# Altium schematic symbol library MCU_ST_STM32L4.SchLib: 320 symbols (part 7 of 9)
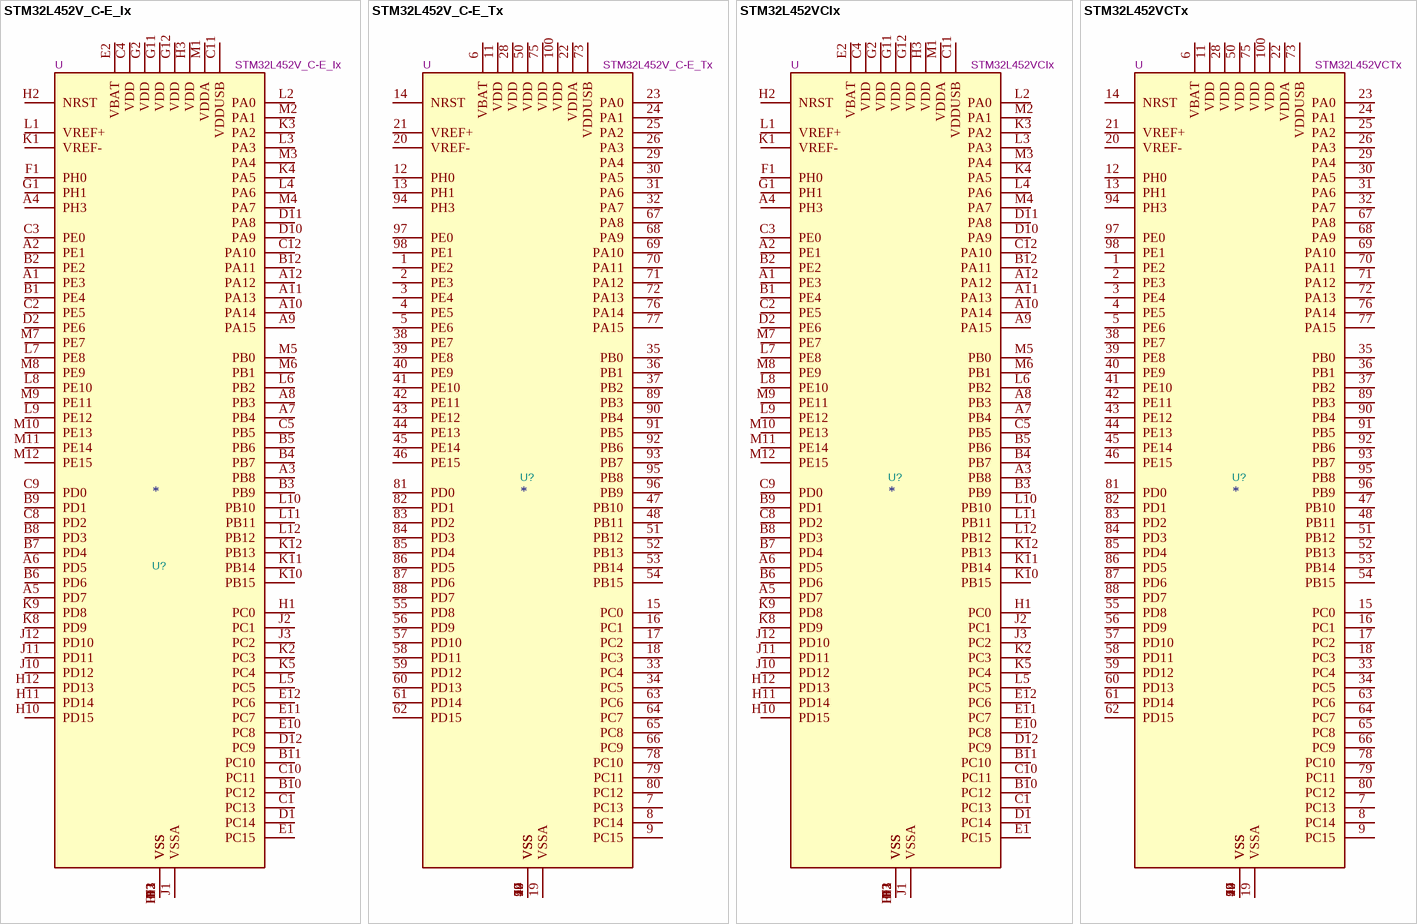
[diagram p69: symbols STM32L452V_C-E_Ix to STM32L452VCTx]

## STM32L452VCTx
designator U?  value STM32L452VCTx  Reference: U
STMicroelectronics Arm Cortex-M4 MCU, 256KB flash, 160KB RAM, 80 MHz, 1.71-3.6V, 83 GPIO, LQFP100; ki_keywords: Arm Cortex-M4 STM32L4 STM32L4x2; ki_fp_filters: LQFP*14x14mm*P0.5mm*; Footprint: Package_QFP:LQFP-100_14x14mm_P0.5mm; Datasheet: https://www.st.com/resource/en/datasheet/stm32l452vc.pdf; Description_: STMicroelectronics Arm Cortex-M4 MCU, 256KB flash, 160KB RAM, 80 MHz, 1.71-3.6V, 83 GPIO, LQFP100
pins: 1 PE2, 2 PE3, 3 PE4, 4 PE5, 5 PE6, 6 VBAT, 7 PC13, 8 PC14, 9 PC15, 10 VSS, 11 VDD, 12 PH0, 13 PH1, 14 NRST, 15 PC0, 16 PC1, 17 PC2, 18 PC3, 19 VSSA, 20 VREF-, 21 VREF+, 22 VDDA, 23 PA0, 24 PA1, 25 PA2, 26 PA3, 27 VSS, 28 VDD, 29 PA4, 30 PA5, 31 PA6, 32 PA7, 33 PC4, 34 PC5, 35 PB0, 36 PB1, 37 PB2, 38 PE7, 39 PE8, 40 PE9, 41 PE10, 42 PE11, 43 PE12, 44 PE13, 45 PE14, 46 PE15, 47 PB10, 48 PB11, 49 VSS, 50 VDD, 51 PB12, 52 PB13, 53 PB14, 54 PB15, 55 PD8, 56 PD9, 57 PD10, 58 PD11, 59 PD12, 60 PD13, 61 PD14, 62 PD15, 63 PC6, 64 PC7, 65 PC8, 66 PC9, 67 PA8, 68 PA9, 69 PA10, 70 PA11, 71 PA12, 72 PA13, 73 VDDUSB, 74 VSS, 75 VDD, 76 PA14, 77 PA15, 78 PC10, 79 PC11, 80 PC12, 81 PD0, 82 PD1, 83 PD2, 84 PD3, 85 PD4, 86 PD5, 87 PD6, 88 PD7, 89 PB3, 90 PB4, 91 PB5, 92 PB6, 93 PB7, 94 PH3, 95 PB8, 96 PB9, 97 PE0, 98 PE1, 99 VSS, 100 VDD

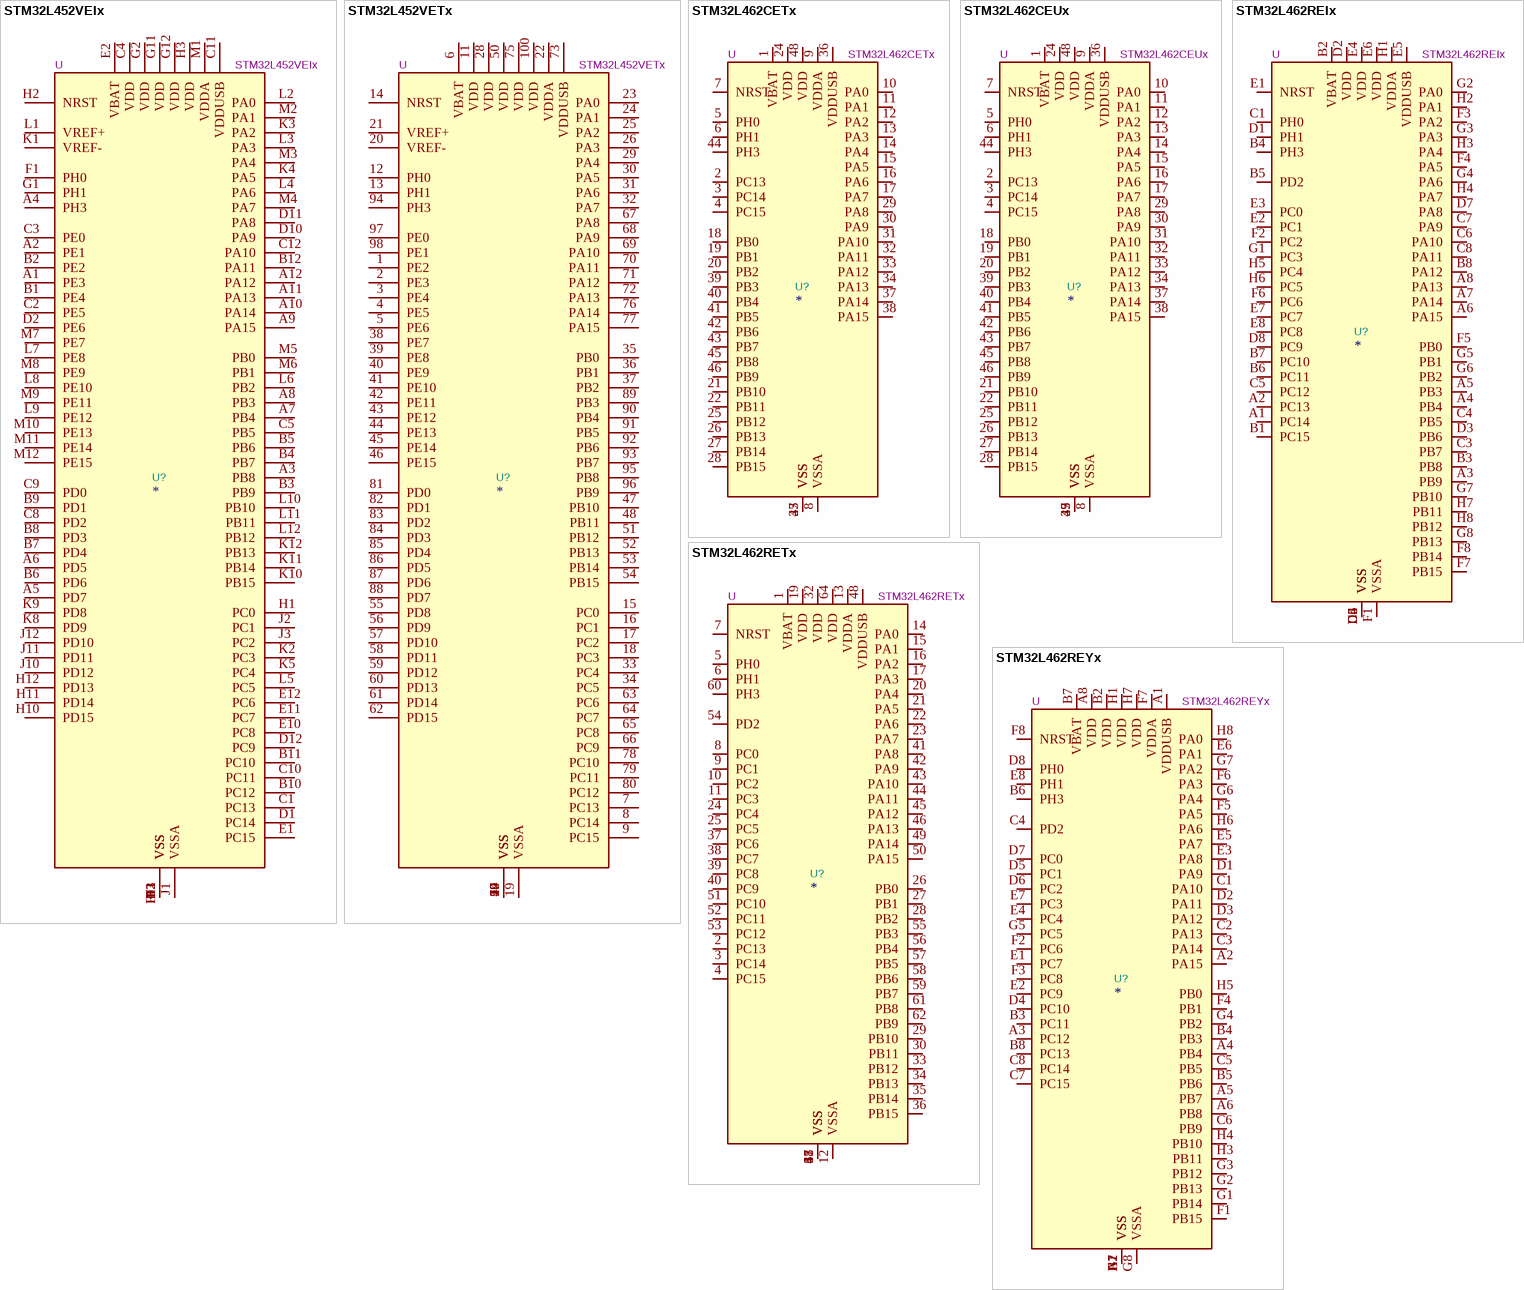
[diagram p45: symbols STM32L452VEIx to STM32L462REYx]

## STM32L452VEIx
designator U?  value STM32L452VEIx  Reference: U
STMicroelectronics Arm Cortex-M4 MCU, 512KB flash, 160KB RAM, 80 MHz, 1.71-3.6V, 83 GPIO, UFBGA100; ki_keywords: Arm Cortex-M4 STM32L4 STM32L4x2; ki_fp_filters: UFBGA*7x7mm*Layout12x12*P0.5mm*; Footprint: Package_BGA:UFBGA-100_7x7mm_Layout12x12_P0.5mm; Datasheet: https://www.st.com/resource/en/datasheet/stm32l452ve.pdf; Description_: STMicroelectronics Arm Cortex-M4 MCU, 512KB flash, 160KB RAM, 80 MHz, 1.71-3.6V, 83 GPIO, UFBGA100
pins: A1 PE3, A2 PE1, A3 PB8, A4 PH3, A5 PD7, A6 PD5, A7 PB4, A8 PB3, A9 PA15, A10 PA14, A11 PA13, A12 PA12, B1 PE4, B2 PE2, B3 PB9, B4 PB7, B5 PB6, B6 PD6, B7 PD4, B8 PD3, B9 PD1, B10 PC12, B11 PC10, B12 PA11, C1 PC13, C2 PE5, C3 PE0, C4 VDD, C5 PB5, C8 PD2, C9 PD0, C10 PC11, C11 VDDUSB, C12 PA10, D1 PC14, D2 PE6, D3 VSS, D10 PA9, D11 PA8, D12 PC9, E1 PC15, E2 VBAT, E3 VSS, E10 PC8, E11 PC7, E12 PC6, F1 PH0, F2 VSS, F11 VSS, F12 VSS, G1 PH1, G2 VDD, G11 VDD, G12 VDD, H1 PC0, H2 NRST, H3 VDD, H10 PD15, H11 PD14, H12 PD13, J1 VSSA, J2 PC1, J3 PC2, J10 PD12, J11 PD11, J12 PD10, K1 VREF-, K2 PC3, K3 PA2, K4 PA5, K5 PC4, K8 PD9, K9 PD8, K10 PB15, K11 PB14, K12 PB13, L1 VREF+, L2 PA0, L3 PA3, L4 PA6, L5 PC5, L6 PB2, L7 PE8, L8 PE10, L9 PE12, L10 PB10, L11 PB11, L12 PB12, M1 VDDA, M2 PA1, M3 PA4, M4 PA7, M5 PB0, M6 PB1, M7 PE7, M8 PE9, M9 PE11, M10 PE13, M11 PE14, M12 PE15

## STM32L452VETx
designator U?  value STM32L452VETx  Reference: U
STMicroelectronics Arm Cortex-M4 MCU, 512KB flash, 160KB RAM, 80 MHz, 1.71-3.6V, 83 GPIO, LQFP100; ki_keywords: Arm Cortex-M4 STM32L4 STM32L4x2; ki_fp_filters: LQFP*14x14mm*P0.5mm*; Footprint: Package_QFP:LQFP-100_14x14mm_P0.5mm; Datasheet: https://www.st.com/resource/en/datasheet/stm32l452ve.pdf; Description_: STMicroelectronics Arm Cortex-M4 MCU, 512KB flash, 160KB RAM, 80 MHz, 1.71-3.6V, 83 GPIO, LQFP100
pins: 1 PE2, 2 PE3, 3 PE4, 4 PE5, 5 PE6, 6 VBAT, 7 PC13, 8 PC14, 9 PC15, 10 VSS, 11 VDD, 12 PH0, 13 PH1, 14 NRST, 15 PC0, 16 PC1, 17 PC2, 18 PC3, 19 VSSA, 20 VREF-, 21 VREF+, 22 VDDA, 23 PA0, 24 PA1, 25 PA2, 26 PA3, 27 VSS, 28 VDD, 29 PA4, 30 PA5, 31 PA6, 32 PA7, 33 PC4, 34 PC5, 35 PB0, 36 PB1, 37 PB2, 38 PE7, 39 PE8, 40 PE9, 41 PE10, 42 PE11, 43 PE12, 44 PE13, 45 PE14, 46 PE15, 47 PB10, 48 PB11, 49 VSS, 50 VDD, 51 PB12, 52 PB13, 53 PB14, 54 PB15, 55 PD8, 56 PD9, 57 PD10, 58 PD11, 59 PD12, 60 PD13, 61 PD14, 62 PD15, 63 PC6, 64 PC7, 65 PC8, 66 PC9, 67 PA8, 68 PA9, 69 PA10, 70 PA11, 71 PA12, 72 PA13, 73 VDDUSB, 74 VSS, 75 VDD, 76 PA14, 77 PA15, 78 PC10, 79 PC11, 80 PC12, 81 PD0, 82 PD1, 83 PD2, 84 PD3, 85 PD4, 86 PD5, 87 PD6, 88 PD7, 89 PB3, 90 PB4, 91 PB5, 92 PB6, 93 PB7, 94 PH3, 95 PB8, 96 PB9, 97 PE0, 98 PE1, 99 VSS, 100 VDD

## STM32L462CETx
designator U?  value STM32L462CETx  Reference: U
STMicroelectronics Arm Cortex-M4 MCU, 512KB flash, 160KB RAM, 80 MHz, 1.71-3.6V, 38 GPIO, LQFP48; ki_keywords: Arm Cortex-M4 STM32L4 STM32L4x2; ki_fp_filters: LQFP*7x7mm*P0.5mm*; Footprint: Package_QFP:LQFP-48_7x7mm_P0.5mm; Datasheet: https://www.st.com/resource/en/datasheet/stm32l462ce.pdf; Description_: STMicroelectronics Arm Cortex-M4 MCU, 512KB flash, 160KB RAM, 80 MHz, 1.71-3.6V, 38 GPIO, LQFP48
pins: 1 VBAT, 2 PC13, 3 PC14, 4 PC15, 5 PH0, 6 PH1, 7 NRST, 8 VSSA, 9 VDDA, 10 PA0, 11 PA1, 12 PA2, 13 PA3, 14 PA4, 15 PA5, 16 PA6, 17 PA7, 18 PB0, 19 PB1, 20 PB2, 21 PB10, 22 PB11, 23 VSS, 24 VDD, 25 PB12, 26 PB13, 27 PB14, 28 PB15, 29 PA8, 30 PA9, 31 PA10, 32 PA11, 33 PA12, 34 PA13, 35 VSS, 36 VDDUSB, 37 PA14, 38 PA15, 39 PB3, 40 PB4, 41 PB5, 42 PB6, 43 PB7, 44 PH3, 45 PB8, 46 PB9, 47 VSS, 48 VDD

## STM32L462CEUx
designator U?  value STM32L462CEUx  Reference: U
STMicroelectronics Arm Cortex-M4 MCU, 512KB flash, 160KB RAM, 80 MHz, 1.71-3.6V, 38 GPIO, UFQFPN48; ki_keywords: Arm Cortex-M4 STM32L4 STM32L4x2; ki_fp_filters: QFN*1EP*7x7mm*P0.5mm*; Footprint: Package_DFN_QFN:QFN-48-1EP_7x7mm_P0.5mm_EP5.6x5.6mm; Datasheet: https://www.st.com/resource/en/datasheet/stm32l462ce.pdf; Description_: STMicroelectronics Arm Cortex-M4 MCU, 512KB flash, 160KB RAM, 80 MHz, 1.71-3.6V, 38 GPIO, UFQFPN48
pins: 1 VBAT, 2 PC13, 3 PC14, 4 PC15, 5 PH0, 6 PH1, 7 NRST, 8 VSSA, 9 VDDA, 10 PA0, 11 PA1, 12 PA2, 13 PA3, 14 PA4, 15 PA5, 16 PA6, 17 PA7, 18 PB0, 19 PB1, 20 PB2, 21 PB10, 22 PB11, 23 VSS, 24 VDD, 25 PB12, 26 PB13, 27 PB14, 28 PB15, 29 PA8, 30 PA9, 31 PA10, 32 PA11, 33 PA12, 34 PA13, 35 VSS, 36 VDDUSB, 37 PA14, 38 PA15, 39 PB3, 40 PB4, 41 PB5, 42 PB6, 43 PB7, 44 PH3, 45 PB8, 46 PB9, 47 VSS, 48 VDD, 49 VSS

## STM32L462REIx
designator U?  value STM32L462REIx  Reference: U
STMicroelectronics Arm Cortex-M4 MCU, 512KB flash, 160KB RAM, 80 MHz, 1.71-3.6V, 52 GPIO, UFBGA64; ki_keywords: Arm Cortex-M4 STM32L4 STM32L4x2; ki_fp_filters: UFBGA*5x5mm*Layout8x8*P0.5mm*; Footprint: Package_BGA:UFBGA-64_5x5mm_Layout8x8_P0.5mm; Datasheet: https://www.st.com/resource/en/datasheet/stm32l462re.pdf; Description_: STMicroelectronics Arm Cortex-M4 MCU, 512KB flash, 160KB RAM, 80 MHz, 1.71-3.6V, 52 GPIO, UFBGA64
pins: A1 PC14, A2 PC13, A3 PB9, A4 PB4, A5 PB3, A6 PA15, A7 PA14, A8 PA13, B1 PC15, B2 VBAT, B3 PB8, B4 PH3, B5 PD2, B6 PC11, B7 PC10, B8 PA12, C1 PH0, C2 VSS, C3 PB7, C4 PB5, C5 PC12, C6 PA10, C7 PA9, C8 PA11, D1 PH1, D2 VDD, D3 PB6, D4 VSS, D5 VSS, D6 VSS, D7 PA8, D8 PC9, E1 NRST, E2 PC1, E3 PC0, E4 VDD, E5 VDDUSB, E6 VDD, E7 PC7, E8 PC8, F1 VSSA, F2 PC2, F3 PA2, F4 PA5, F5 PB0, F6 PC6, F7 PB15, F8 PB14, G1 PC3, G2 PA0, G3 PA3, G4 PA6, G5 PB1, G6 PB2, G7 PB10, G8 PB13, H1 VDDA, H2 PA1, H3 PA4, H4 PA7, H5 PC4, H6 PC5, H7 PB11, H8 PB12

## STM32L462RETx
designator U?  value STM32L462RETx  Reference: U
STMicroelectronics Arm Cortex-M4 MCU, 512KB flash, 160KB RAM, 80 MHz, 1.71-3.6V, 52 GPIO, LQFP64; ki_keywords: Arm Cortex-M4 STM32L4 STM32L4x2; ki_fp_filters: LQFP*10x10mm*P0.5mm*; Footprint: Package_QFP:LQFP-64_10x10mm_P0.5mm; Datasheet: https://www.st.com/resource/en/datasheet/stm32l462re.pdf; Description_: STMicroelectronics Arm Cortex-M4 MCU, 512KB flash, 160KB RAM, 80 MHz, 1.71-3.6V, 52 GPIO, LQFP64
pins: 1 VBAT, 2 PC13, 3 PC14, 4 PC15, 5 PH0, 6 PH1, 7 NRST, 8 PC0, 9 PC1, 10 PC2, 11 PC3, 12 VSSA, 13 VDDA, 14 PA0, 15 PA1, 16 PA2, 17 PA3, 18 VSS, 19 VDD, 20 PA4, 21 PA5, 22 PA6, 23 PA7, 24 PC4, 25 PC5, 26 PB0, 27 PB1, 28 PB2, 29 PB10, 30 PB11, 31 VSS, 32 VDD, 33 PB12, 34 PB13, 35 PB14, 36 PB15, 37 PC6, 38 PC7, 39 PC8, 40 PC9, 41 PA8, 42 PA9, 43 PA10, 44 PA11, 45 PA12, 46 PA13, 47 VSS, 48 VDDUSB, 49 PA14, 50 PA15, 51 PC10, 52 PC11, 53 PC12, 54 PD2, 55 PB3, 56 PB4, 57 PB5, 58 PB6, 59 PB7, 60 PH3, 61 PB8, 62 PB9, 63 VSS, 64 VDD

## STM32L462REYx
designator U?  value STM32L462REYx  Reference: U
STMicroelectronics Arm Cortex-M4 MCU, 512KB flash, 160KB RAM, 80 MHz, 1.71-3.6V, 52 GPIO, WLCSP64; ki_keywords: Arm Cortex-M4 STM32L4 STM32L4x2; ki_fp_filters: ST*WLCSP*Die462*; Footprint: Package_CSP:ST_WLCSP-64_Die462; Datasheet: https://www.st.com/resource/en/datasheet/stm32l462re.pdf; Description_: STMicroelectronics Arm Cortex-M4 MCU, 512KB flash, 160KB RAM, 80 MHz, 1.71-3.6V, 52 GPIO, WLCSP64
pins: A1 VDDUSB, A2 PA15, A3 PC12, A4 PB4, A5 PB7, A6 PB8, A7 VSS, A8 VDD, B1 VSS, B2 VDD, B3 PC11, B4 PB3, B5 PB6, B6 PH3, B7 VBAT, B8 PC13, C1 PA10, C2 PA13, C3 PA14, C4 PD2, C5 PB5, C6 PB9, C7 PC15, C8 PC14, D1 PA9, D2 PA11, D3 PA12, D4 PC10, D5 PC1, D6 PC2, D7 PC0, D8 PH0, E1 PC7, E2 PC9, E3 PA8, E4 PC4, E5 PA7, E6 PA1, E7 PC3, E8 PH1, F1 PB15, F2 PC6, F3 PC8, F4 PB1, F5 PA5, F6 PA3, F7 VDDA, F8 NRST, G1 PB14, G2 PB13, G3 PB12, G4 PB2, G5 PC5, G6 PA4, G7 PA2, G8 VSSA, H1 VDD, H2 VSS, H3 PB11, H4 PB10, H5 PB0, H6 PA6, H7 VDD, H8 PA0

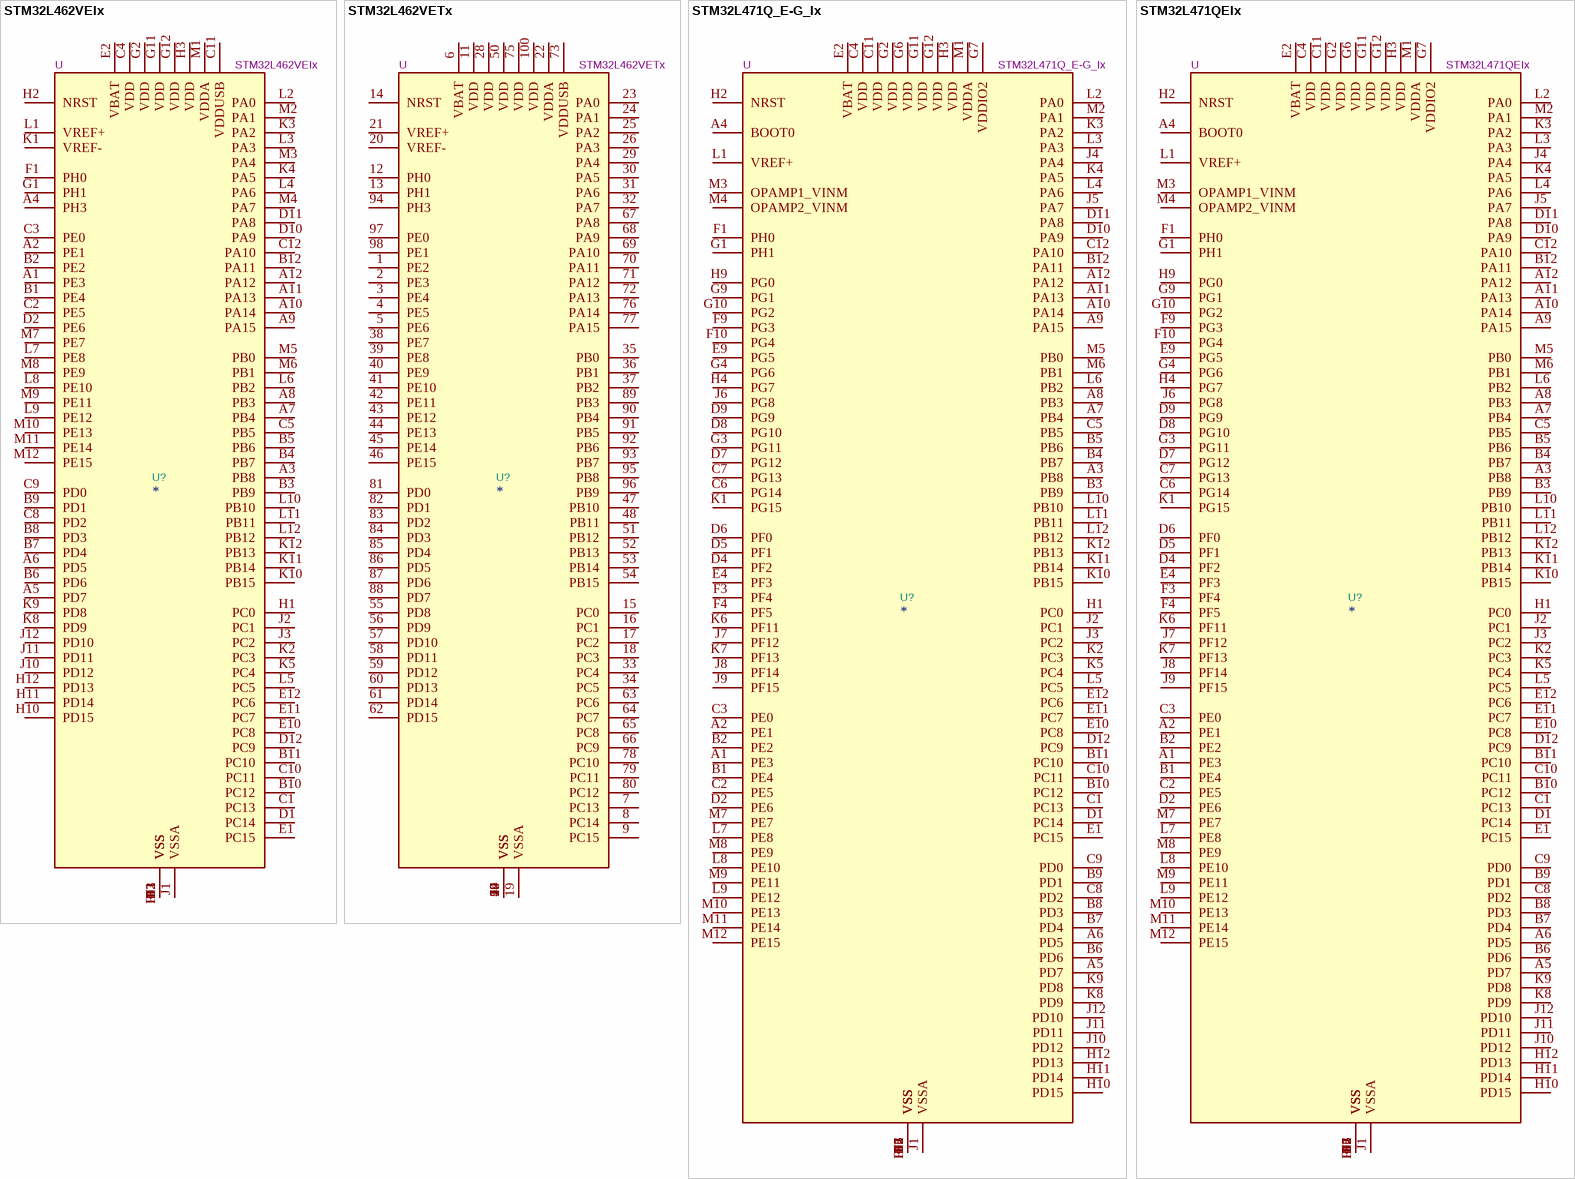
[diagram p46: symbols STM32L462VEIx to STM32L471QEIx]

## STM32L462VEIx
designator U?  value STM32L462VEIx  Reference: U
STMicroelectronics Arm Cortex-M4 MCU, 512KB flash, 160KB RAM, 80 MHz, 1.71-3.6V, 83 GPIO, UFBGA100; ki_keywords: Arm Cortex-M4 STM32L4 STM32L4x2; ki_fp_filters: UFBGA*7x7mm*Layout12x12*P0.5mm*; Footprint: Package_BGA:UFBGA-100_7x7mm_Layout12x12_P0.5mm; Datasheet: https://www.st.com/resource/en/datasheet/stm32l462ve.pdf; Description_: STMicroelectronics Arm Cortex-M4 MCU, 512KB flash, 160KB RAM, 80 MHz, 1.71-3.6V, 83 GPIO, UFBGA100
pins: A1 PE3, A2 PE1, A3 PB8, A4 PH3, A5 PD7, A6 PD5, A7 PB4, A8 PB3, A9 PA15, A10 PA14, A11 PA13, A12 PA12, B1 PE4, B2 PE2, B3 PB9, B4 PB7, B5 PB6, B6 PD6, B7 PD4, B8 PD3, B9 PD1, B10 PC12, B11 PC10, B12 PA11, C1 PC13, C2 PE5, C3 PE0, C4 VDD, C5 PB5, C8 PD2, C9 PD0, C10 PC11, C11 VDDUSB, C12 PA10, D1 PC14, D2 PE6, D3 VSS, D10 PA9, D11 PA8, D12 PC9, E1 PC15, E2 VBAT, E3 VSS, E10 PC8, E11 PC7, E12 PC6, F1 PH0, F2 VSS, F11 VSS, F12 VSS, G1 PH1, G2 VDD, G11 VDD, G12 VDD, H1 PC0, H2 NRST, H3 VDD, H10 PD15, H11 PD14, H12 PD13, J1 VSSA, J2 PC1, J3 PC2, J10 PD12, J11 PD11, J12 PD10, K1 VREF-, K2 PC3, K3 PA2, K4 PA5, K5 PC4, K8 PD9, K9 PD8, K10 PB15, K11 PB14, K12 PB13, L1 VREF+, L2 PA0, L3 PA3, L4 PA6, L5 PC5, L6 PB2, L7 PE8, L8 PE10, L9 PE12, L10 PB10, L11 PB11, L12 PB12, M1 VDDA, M2 PA1, M3 PA4, M4 PA7, M5 PB0, M6 PB1, M7 PE7, M8 PE9, M9 PE11, M10 PE13, M11 PE14, M12 PE15

## STM32L462VETx
designator U?  value STM32L462VETx  Reference: U
STMicroelectronics Arm Cortex-M4 MCU, 512KB flash, 160KB RAM, 80 MHz, 1.71-3.6V, 83 GPIO, LQFP100; ki_keywords: Arm Cortex-M4 STM32L4 STM32L4x2; ki_fp_filters: LQFP*14x14mm*P0.5mm*; Footprint: Package_QFP:LQFP-100_14x14mm_P0.5mm; Datasheet: https://www.st.com/resource/en/datasheet/stm32l462ve.pdf; Description_: STMicroelectronics Arm Cortex-M4 MCU, 512KB flash, 160KB RAM, 80 MHz, 1.71-3.6V, 83 GPIO, LQFP100
pins: 1 PE2, 2 PE3, 3 PE4, 4 PE5, 5 PE6, 6 VBAT, 7 PC13, 8 PC14, 9 PC15, 10 VSS, 11 VDD, 12 PH0, 13 PH1, 14 NRST, 15 PC0, 16 PC1, 17 PC2, 18 PC3, 19 VSSA, 20 VREF-, 21 VREF+, 22 VDDA, 23 PA0, 24 PA1, 25 PA2, 26 PA3, 27 VSS, 28 VDD, 29 PA4, 30 PA5, 31 PA6, 32 PA7, 33 PC4, 34 PC5, 35 PB0, 36 PB1, 37 PB2, 38 PE7, 39 PE8, 40 PE9, 41 PE10, 42 PE11, 43 PE12, 44 PE13, 45 PE14, 46 PE15, 47 PB10, 48 PB11, 49 VSS, 50 VDD, 51 PB12, 52 PB13, 53 PB14, 54 PB15, 55 PD8, 56 PD9, 57 PD10, 58 PD11, 59 PD12, 60 PD13, 61 PD14, 62 PD15, 63 PC6, 64 PC7, 65 PC8, 66 PC9, 67 PA8, 68 PA9, 69 PA10, 70 PA11, 71 PA12, 72 PA13, 73 VDDUSB, 74 VSS, 75 VDD, 76 PA14, 77 PA15, 78 PC10, 79 PC11, 80 PC12, 81 PD0, 82 PD1, 83 PD2, 84 PD3, 85 PD4, 86 PD5, 87 PD6, 88 PD7, 89 PB3, 90 PB4, 91 PB5, 92 PB6, 93 PB7, 94 PH3, 95 PB8, 96 PB9, 97 PE0, 98 PE1, 99 VSS, 100 VDD

## STM32L471Q_E-G_Ix
designator U?  value STM32L471Q_E-G_Ix  Reference: U
STMicroelectronics Arm Cortex-M4 MCU, 512-1024KB flash, 128KB RAM, 80 MHz, 1.71-3.6V, 109 GPIO, UFBGA132; ki_keywords: Arm Cortex-M4 STM32L4 STM32L4x1; ki_fp_filters: UFBGA*7x7mm*Layout12x12*P0.5mm*; Footprint: Package_BGA:UFBGA-132_7x7mm_Layout12x12_P0.5mm; Datasheet: https://www.st.com/resource/en/datasheet/stm32l471qe.pdf; Description_: STMicroelectronics Arm Cortex-M4 MCU, 512-1024KB flash, 128KB RAM, 80 MHz, 1.71-3.6V, 109 GPIO, UFBGA132
pins: A1 PE3, A2 PE1, A3 PB8, A4 BOOT0, A5 PD7, A6 PD5, A7 PB4, A8 PB3, A9 PA15, A10 PA14, A11 PA13, A12 PA12, B1 PE4, B2 PE2, B3 PB9, B4 PB7, B5 PB6, B6 PD6, B7 PD4, B8 PD3, B9 PD1, B10 PC12, B11 PC10, B12 PA11, C1 PC13, C2 PE5, C3 PE0, C4 VDD, C5 PB5, C6 PG14, C7 PG13, C8 PD2, C9 PD0, C10 PC11, C11 VDD, C12 PA10, D1 PC14, D2 PE6, D3 VSS, D4 PF2, D5 PF1, D6 PF0, D7 PG12, D8 PG10, D9 PG9, D10 PA9, D11 PA8, D12 PC9, E1 PC15, E2 VBAT, E3 VSS, E4 PF3, E9 PG5, E10 PC8, E11 PC7, E12 PC6, F1 PH0, F2 VSS, F3 PF4, F4 PF5, F6 VSS, F7 VSS, F9 PG3, F10 PG4, F11 VSS, F12 VSS, G1 PH1, G2 VDD, G3 PG11, G4 PG6, G6 VDD, G7 VDDIO2, G9 PG1, G10 PG2, G11 VDD, G12 VDD, H1 PC0, H2 NRST, H3 VDD, H4 PG7, H9 PG0, H10 PD15, H11 PD14, H12 PD13, J1 VSSA, J2 PC1, J3 PC2, J4 PA4, J5 PA7, J6 PG8, J7 PF12, J8 PF14, J9 PF15, J10 PD12, J11 PD11, J12 PD10, K1 PG15, K2 PC3, K3 PA2, K4 PA5, K5 PC4, K6 PF11, K7 PF13, K8 PD9, K9 PD8, K10 PB15, K11 PB14, K12 PB13, L1 VREF+, L2 PA0, L3 PA3, L4 PA6, L5 PC5, L6 PB2, L7 PE8, L8 PE10, L9 PE12, L10 PB10, L11 PB11, L12 PB12, M1 VDDA, M2 PA1, M3 OPAMP1_VINM, M4 OPAMP2_VINM, M5 PB0, M6 PB1, M7 PE7, M8 PE9, M9 PE11, M10 PE13, M11 PE14, M12 PE15

## STM32L471QEIx
designator U?  value STM32L471QEIx  Reference: U
STMicroelectronics Arm Cortex-M4 MCU, 512KB flash, 128KB RAM, 80 MHz, 1.71-3.6V, 109 GPIO, UFBGA132; ki_keywords: Arm Cortex-M4 STM32L4 STM32L4x1; ki_fp_filters: UFBGA*7x7mm*Layout12x12*P0.5mm*; Footprint: Package_BGA:UFBGA-132_7x7mm_Layout12x12_P0.5mm; Datasheet: https://www.st.com/resource/en/datasheet/stm32l471qe.pdf; Description_: STMicroelectronics Arm Cortex-M4 MCU, 512KB flash, 128KB RAM, 80 MHz, 1.71-3.6V, 109 GPIO, UFBGA132
pins: A1 PE3, A2 PE1, A3 PB8, A4 BOOT0, A5 PD7, A6 PD5, A7 PB4, A8 PB3, A9 PA15, A10 PA14, A11 PA13, A12 PA12, B1 PE4, B2 PE2, B3 PB9, B4 PB7, B5 PB6, B6 PD6, B7 PD4, B8 PD3, B9 PD1, B10 PC12, B11 PC10, B12 PA11, C1 PC13, C2 PE5, C3 PE0, C4 VDD, C5 PB5, C6 PG14, C7 PG13, C8 PD2, C9 PD0, C10 PC11, C11 VDD, C12 PA10, D1 PC14, D2 PE6, D3 VSS, D4 PF2, D5 PF1, D6 PF0, D7 PG12, D8 PG10, D9 PG9, D10 PA9, D11 PA8, D12 PC9, E1 PC15, E2 VBAT, E3 VSS, E4 PF3, E9 PG5, E10 PC8, E11 PC7, E12 PC6, F1 PH0, F2 VSS, F3 PF4, F4 PF5, F6 VSS, F7 VSS, F9 PG3, F10 PG4, F11 VSS, F12 VSS, G1 PH1, G2 VDD, G3 PG11, G4 PG6, G6 VDD, G7 VDDIO2, G9 PG1, G10 PG2, G11 VDD, G12 VDD, H1 PC0, H2 NRST, H3 VDD, H4 PG7, H9 PG0, H10 PD15, H11 PD14, H12 PD13, J1 VSSA, J2 PC1, J3 PC2, J4 PA4, J5 PA7, J6 PG8, J7 PF12, J8 PF14, J9 PF15, J10 PD12, J11 PD11, J12 PD10, K1 PG15, K2 PC3, K3 PA2, K4 PA5, K5 PC4, K6 PF11, K7 PF13, K8 PD9, K9 PD8, K10 PB15, K11 PB14, K12 PB13, L1 VREF+, L2 PA0, L3 PA3, L4 PA6, L5 PC5, L6 PB2, L7 PE8, L8 PE10, L9 PE12, L10 PB10, L11 PB11, L12 PB12, M1 VDDA, M2 PA1, M3 OPAMP1_VINM, M4 OPAMP2_VINM, M5 PB0, M6 PB1, M7 PE7, M8 PE9, M9 PE11, M10 PE13, M11 PE14, M12 PE15

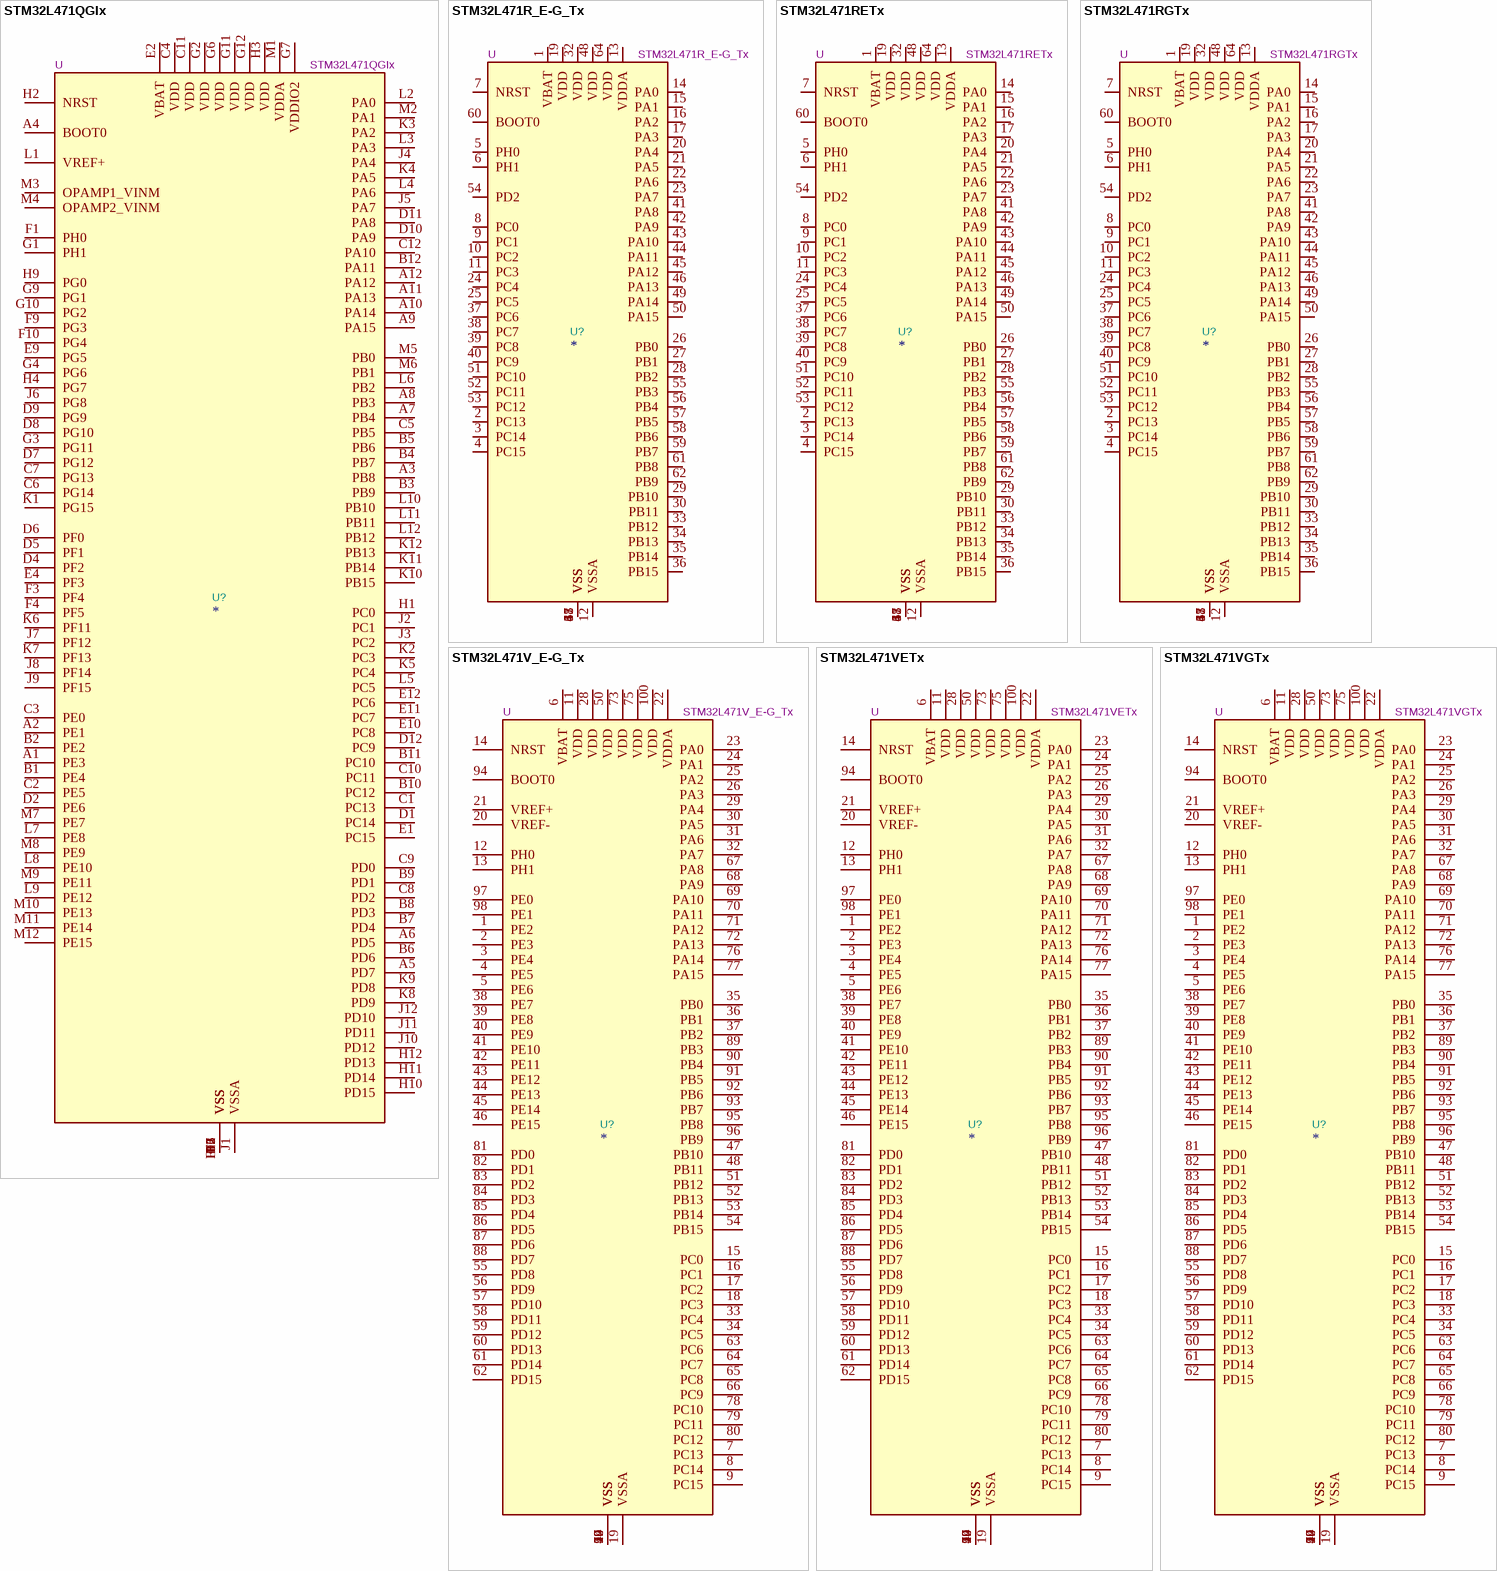
[diagram p47: symbols STM32L471QGIx to STM32L471VGTx]

## STM32L471QGIx
designator U?  value STM32L471QGIx  Reference: U
STMicroelectronics Arm Cortex-M4 MCU, 1024KB flash, 128KB RAM, 80 MHz, 1.71-3.6V, 109 GPIO, UFBGA132; ki_keywords: Arm Cortex-M4 STM32L4 STM32L4x1; ki_fp_filters: UFBGA*7x7mm*Layout12x12*P0.5mm*; Footprint: Package_BGA:UFBGA-132_7x7mm_Layout12x12_P0.5mm; Datasheet: https://www.st.com/resource/en/datasheet/stm32l471qg.pdf; Description_: STMicroelectronics Arm Cortex-M4 MCU, 1024KB flash, 128KB RAM, 80 MHz, 1.71-3.6V, 109 GPIO, UFBGA132
pins: A1 PE3, A2 PE1, A3 PB8, A4 BOOT0, A5 PD7, A6 PD5, A7 PB4, A8 PB3, A9 PA15, A10 PA14, A11 PA13, A12 PA12, B1 PE4, B2 PE2, B3 PB9, B4 PB7, B5 PB6, B6 PD6, B7 PD4, B8 PD3, B9 PD1, B10 PC12, B11 PC10, B12 PA11, C1 PC13, C2 PE5, C3 PE0, C4 VDD, C5 PB5, C6 PG14, C7 PG13, C8 PD2, C9 PD0, C10 PC11, C11 VDD, C12 PA10, D1 PC14, D2 PE6, D3 VSS, D4 PF2, D5 PF1, D6 PF0, D7 PG12, D8 PG10, D9 PG9, D10 PA9, D11 PA8, D12 PC9, E1 PC15, E2 VBAT, E3 VSS, E4 PF3, E9 PG5, E10 PC8, E11 PC7, E12 PC6, F1 PH0, F2 VSS, F3 PF4, F4 PF5, F6 VSS, F7 VSS, F9 PG3, F10 PG4, F11 VSS, F12 VSS, G1 PH1, G2 VDD, G3 PG11, G4 PG6, G6 VDD, G7 VDDIO2, G9 PG1, G10 PG2, G11 VDD, G12 VDD, H1 PC0, H2 NRST, H3 VDD, H4 PG7, H9 PG0, H10 PD15, H11 PD14, H12 PD13, J1 VSSA, J2 PC1, J3 PC2, J4 PA4, J5 PA7, J6 PG8, J7 PF12, J8 PF14, J9 PF15, J10 PD12, J11 PD11, J12 PD10, K1 PG15, K2 PC3, K3 PA2, K4 PA5, K5 PC4, K6 PF11, K7 PF13, K8 PD9, K9 PD8, K10 PB15, K11 PB14, K12 PB13, L1 VREF+, L2 PA0, L3 PA3, L4 PA6, L5 PC5, L6 PB2, L7 PE8, L8 PE10, L9 PE12, L10 PB10, L11 PB11, L12 PB12, M1 VDDA, M2 PA1, M3 OPAMP1_VINM, M4 OPAMP2_VINM, M5 PB0, M6 PB1, M7 PE7, M8 PE9, M9 PE11, M10 PE13, M11 PE14, M12 PE15

## STM32L471R_E-G_Tx
designator U?  value STM32L471R_E-G_Tx  Reference: U
STMicroelectronics Arm Cortex-M4 MCU, 512-1024KB flash, 128KB RAM, 80 MHz, 1.71-3.6V, 51 GPIO, LQFP64; ki_keywords: Arm Cortex-M4 STM32L4 STM32L4x1; ki_fp_filters: LQFP*10x10mm*P0.5mm*; Footprint: Package_QFP:LQFP-64_10x10mm_P0.5mm; Datasheet: https://www.st.com/resource/en/datasheet/stm32l471re.pdf; Description_: STMicroelectronics Arm Cortex-M4 MCU, 512-1024KB flash, 128KB RAM, 80 MHz, 1.71-3.6V, 51 GPIO, LQFP64
pins: 1 VBAT, 2 PC13, 3 PC14, 4 PC15, 5 PH0, 6 PH1, 7 NRST, 8 PC0, 9 PC1, 10 PC2, 11 PC3, 12 VSSA, 13 VDDA, 14 PA0, 15 PA1, 16 PA2, 17 PA3, 18 VSS, 19 VDD, 20 PA4, 21 PA5, 22 PA6, 23 PA7, 24 PC4, 25 PC5, 26 PB0, 27 PB1, 28 PB2, 29 PB10, 30 PB11, 31 VSS, 32 VDD, 33 PB12, 34 PB13, 35 PB14, 36 PB15, 37 PC6, 38 PC7, 39 PC8, 40 PC9, 41 PA8, 42 PA9, 43 PA10, 44 PA11, 45 PA12, 46 PA13, 47 VSS, 48 VDD, 49 PA14, 50 PA15, 51 PC10, 52 PC11, 53 PC12, 54 PD2, 55 PB3, 56 PB4, 57 PB5, 58 PB6, 59 PB7, 60 BOOT0, 61 PB8, 62 PB9, 63 VSS, 64 VDD

## STM32L471RETx
designator U?  value STM32L471RETx  Reference: U
STMicroelectronics Arm Cortex-M4 MCU, 512KB flash, 128KB RAM, 80 MHz, 1.71-3.6V, 51 GPIO, LQFP64; ki_keywords: Arm Cortex-M4 STM32L4 STM32L4x1; ki_fp_filters: LQFP*10x10mm*P0.5mm*; Footprint: Package_QFP:LQFP-64_10x10mm_P0.5mm; Datasheet: https://www.st.com/resource/en/datasheet/stm32l471re.pdf; Description_: STMicroelectronics Arm Cortex-M4 MCU, 512KB flash, 128KB RAM, 80 MHz, 1.71-3.6V, 51 GPIO, LQFP64
pins: 1 VBAT, 2 PC13, 3 PC14, 4 PC15, 5 PH0, 6 PH1, 7 NRST, 8 PC0, 9 PC1, 10 PC2, 11 PC3, 12 VSSA, 13 VDDA, 14 PA0, 15 PA1, 16 PA2, 17 PA3, 18 VSS, 19 VDD, 20 PA4, 21 PA5, 22 PA6, 23 PA7, 24 PC4, 25 PC5, 26 PB0, 27 PB1, 28 PB2, 29 PB10, 30 PB11, 31 VSS, 32 VDD, 33 PB12, 34 PB13, 35 PB14, 36 PB15, 37 PC6, 38 PC7, 39 PC8, 40 PC9, 41 PA8, 42 PA9, 43 PA10, 44 PA11, 45 PA12, 46 PA13, 47 VSS, 48 VDD, 49 PA14, 50 PA15, 51 PC10, 52 PC11, 53 PC12, 54 PD2, 55 PB3, 56 PB4, 57 PB5, 58 PB6, 59 PB7, 60 BOOT0, 61 PB8, 62 PB9, 63 VSS, 64 VDD

## STM32L471RGTx
designator U?  value STM32L471RGTx  Reference: U
STMicroelectronics Arm Cortex-M4 MCU, 1024KB flash, 128KB RAM, 80 MHz, 1.71-3.6V, 51 GPIO, LQFP64; ki_keywords: Arm Cortex-M4 STM32L4 STM32L4x1; ki_fp_filters: LQFP*10x10mm*P0.5mm*; Footprint: Package_QFP:LQFP-64_10x10mm_P0.5mm; Datasheet: https://www.st.com/resource/en/datasheet/stm32l471rg.pdf; Description_: STMicroelectronics Arm Cortex-M4 MCU, 1024KB flash, 128KB RAM, 80 MHz, 1.71-3.6V, 51 GPIO, LQFP64
pins: 1 VBAT, 2 PC13, 3 PC14, 4 PC15, 5 PH0, 6 PH1, 7 NRST, 8 PC0, 9 PC1, 10 PC2, 11 PC3, 12 VSSA, 13 VDDA, 14 PA0, 15 PA1, 16 PA2, 17 PA3, 18 VSS, 19 VDD, 20 PA4, 21 PA5, 22 PA6, 23 PA7, 24 PC4, 25 PC5, 26 PB0, 27 PB1, 28 PB2, 29 PB10, 30 PB11, 31 VSS, 32 VDD, 33 PB12, 34 PB13, 35 PB14, 36 PB15, 37 PC6, 38 PC7, 39 PC8, 40 PC9, 41 PA8, 42 PA9, 43 PA10, 44 PA11, 45 PA12, 46 PA13, 47 VSS, 48 VDD, 49 PA14, 50 PA15, 51 PC10, 52 PC11, 53 PC12, 54 PD2, 55 PB3, 56 PB4, 57 PB5, 58 PB6, 59 PB7, 60 BOOT0, 61 PB8, 62 PB9, 63 VSS, 64 VDD

## STM32L471V_E-G_Tx
designator U?  value STM32L471V_E-G_Tx  Reference: U
STMicroelectronics Arm Cortex-M4 MCU, 512-1024KB flash, 128KB RAM, 80 MHz, 1.71-3.6V, 82 GPIO, LQFP100; ki_keywords: Arm Cortex-M4 STM32L4 STM32L4x1; ki_fp_filters: LQFP*14x14mm*P0.5mm*; Footprint: Package_QFP:LQFP-100_14x14mm_P0.5mm; Datasheet: https://www.st.com/resource/en/datasheet/stm32l471ve.pdf; Description_: STMicroelectronics Arm Cortex-M4 MCU, 512-1024KB flash, 128KB RAM, 80 MHz, 1.71-3.6V, 82 GPIO, LQFP100
pins: 1 PE2, 2 PE3, 3 PE4, 4 PE5, 5 PE6, 6 VBAT, 7 PC13, 8 PC14, 9 PC15, 10 VSS, 11 VDD, 12 PH0, 13 PH1, 14 NRST, 15 PC0, 16 PC1, 17 PC2, 18 PC3, 19 VSSA, 20 VREF-, 21 VREF+, 22 VDDA, 23 PA0, 24 PA1, 25 PA2, 26 PA3, 27 VSS, 28 VDD, 29 PA4, 30 PA5, 31 PA6, 32 PA7, 33 PC4, 34 PC5, 35 PB0, 36 PB1, 37 PB2, 38 PE7, 39 PE8, 40 PE9, 41 PE10, 42 PE11, 43 PE12, 44 PE13, 45 PE14, 46 PE15, 47 PB10, 48 PB11, 49 VSS, 50 VDD, 51 PB12, 52 PB13, 53 PB14, 54 PB15, 55 PD8, 56 PD9, 57 PD10, 58 PD11, 59 PD12, 60 PD13, 61 PD14, 62 PD15, 63 PC6, 64 PC7, 65 PC8, 66 PC9, 67 PA8, 68 PA9, 69 PA10, 70 PA11, 71 PA12, 72 PA13, 73 VDD, 74 VSS, 75 VDD, 76 PA14, 77 PA15, 78 PC10, 79 PC11, 80 PC12, 81 PD0, 82 PD1, 83 PD2, 84 PD3, 85 PD4, 86 PD5, 87 PD6, 88 PD7, 89 PB3, 90 PB4, 91 PB5, 92 PB6, 93 PB7, 94 BOOT0, 95 PB8, 96 PB9, 97 PE0, 98 PE1, 99 VSS, 100 VDD

## STM32L471VETx
designator U?  value STM32L471VETx  Reference: U
STMicroelectronics Arm Cortex-M4 MCU, 512KB flash, 128KB RAM, 80 MHz, 1.71-3.6V, 82 GPIO, LQFP100; ki_keywords: Arm Cortex-M4 STM32L4 STM32L4x1; ki_fp_filters: LQFP*14x14mm*P0.5mm*; Footprint: Package_QFP:LQFP-100_14x14mm_P0.5mm; Datasheet: https://www.st.com/resource/en/datasheet/stm32l471ve.pdf; Description_: STMicroelectronics Arm Cortex-M4 MCU, 512KB flash, 128KB RAM, 80 MHz, 1.71-3.6V, 82 GPIO, LQFP100
pins: 1 PE2, 2 PE3, 3 PE4, 4 PE5, 5 PE6, 6 VBAT, 7 PC13, 8 PC14, 9 PC15, 10 VSS, 11 VDD, 12 PH0, 13 PH1, 14 NRST, 15 PC0, 16 PC1, 17 PC2, 18 PC3, 19 VSSA, 20 VREF-, 21 VREF+, 22 VDDA, 23 PA0, 24 PA1, 25 PA2, 26 PA3, 27 VSS, 28 VDD, 29 PA4, 30 PA5, 31 PA6, 32 PA7, 33 PC4, 34 PC5, 35 PB0, 36 PB1, 37 PB2, 38 PE7, 39 PE8, 40 PE9, 41 PE10, 42 PE11, 43 PE12, 44 PE13, 45 PE14, 46 PE15, 47 PB10, 48 PB11, 49 VSS, 50 VDD, 51 PB12, 52 PB13, 53 PB14, 54 PB15, 55 PD8, 56 PD9, 57 PD10, 58 PD11, 59 PD12, 60 PD13, 61 PD14, 62 PD15, 63 PC6, 64 PC7, 65 PC8, 66 PC9, 67 PA8, 68 PA9, 69 PA10, 70 PA11, 71 PA12, 72 PA13, 73 VDD, 74 VSS, 75 VDD, 76 PA14, 77 PA15, 78 PC10, 79 PC11, 80 PC12, 81 PD0, 82 PD1, 83 PD2, 84 PD3, 85 PD4, 86 PD5, 87 PD6, 88 PD7, 89 PB3, 90 PB4, 91 PB5, 92 PB6, 93 PB7, 94 BOOT0, 95 PB8, 96 PB9, 97 PE0, 98 PE1, 99 VSS, 100 VDD

## STM32L471VGTx
designator U?  value STM32L471VGTx  Reference: U
STMicroelectronics Arm Cortex-M4 MCU, 1024KB flash, 128KB RAM, 80 MHz, 1.71-3.6V, 82 GPIO, LQFP100; ki_keywords: Arm Cortex-M4 STM32L4 STM32L4x1; ki_fp_filters: LQFP*14x14mm*P0.5mm*; Footprint: Package_QFP:LQFP-100_14x14mm_P0.5mm; Datasheet: https://www.st.com/resource/en/datasheet/stm32l471vg.pdf; Description_: STMicroelectronics Arm Cortex-M4 MCU, 1024KB flash, 128KB RAM, 80 MHz, 1.71-3.6V, 82 GPIO, LQFP100
pins: 1 PE2, 2 PE3, 3 PE4, 4 PE5, 5 PE6, 6 VBAT, 7 PC13, 8 PC14, 9 PC15, 10 VSS, 11 VDD, 12 PH0, 13 PH1, 14 NRST, 15 PC0, 16 PC1, 17 PC2, 18 PC3, 19 VSSA, 20 VREF-, 21 VREF+, 22 VDDA, 23 PA0, 24 PA1, 25 PA2, 26 PA3, 27 VSS, 28 VDD, 29 PA4, 30 PA5, 31 PA6, 32 PA7, 33 PC4, 34 PC5, 35 PB0, 36 PB1, 37 PB2, 38 PE7, 39 PE8, 40 PE9, 41 PE10, 42 PE11, 43 PE12, 44 PE13, 45 PE14, 46 PE15, 47 PB10, 48 PB11, 49 VSS, 50 VDD, 51 PB12, 52 PB13, 53 PB14, 54 PB15, 55 PD8, 56 PD9, 57 PD10, 58 PD11, 59 PD12, 60 PD13, 61 PD14, 62 PD15, 63 PC6, 64 PC7, 65 PC8, 66 PC9, 67 PA8, 68 PA9, 69 PA10, 70 PA11, 71 PA12, 72 PA13, 73 VDD, 74 VSS, 75 VDD, 76 PA14, 77 PA15, 78 PC10, 79 PC11, 80 PC12, 81 PD0, 82 PD1, 83 PD2, 84 PD3, 85 PD4, 86 PD5, 87 PD6, 88 PD7, 89 PB3, 90 PB4, 91 PB5, 92 PB6, 93 PB7, 94 BOOT0, 95 PB8, 96 PB9, 97 PE0, 98 PE1, 99 VSS, 100 VDD

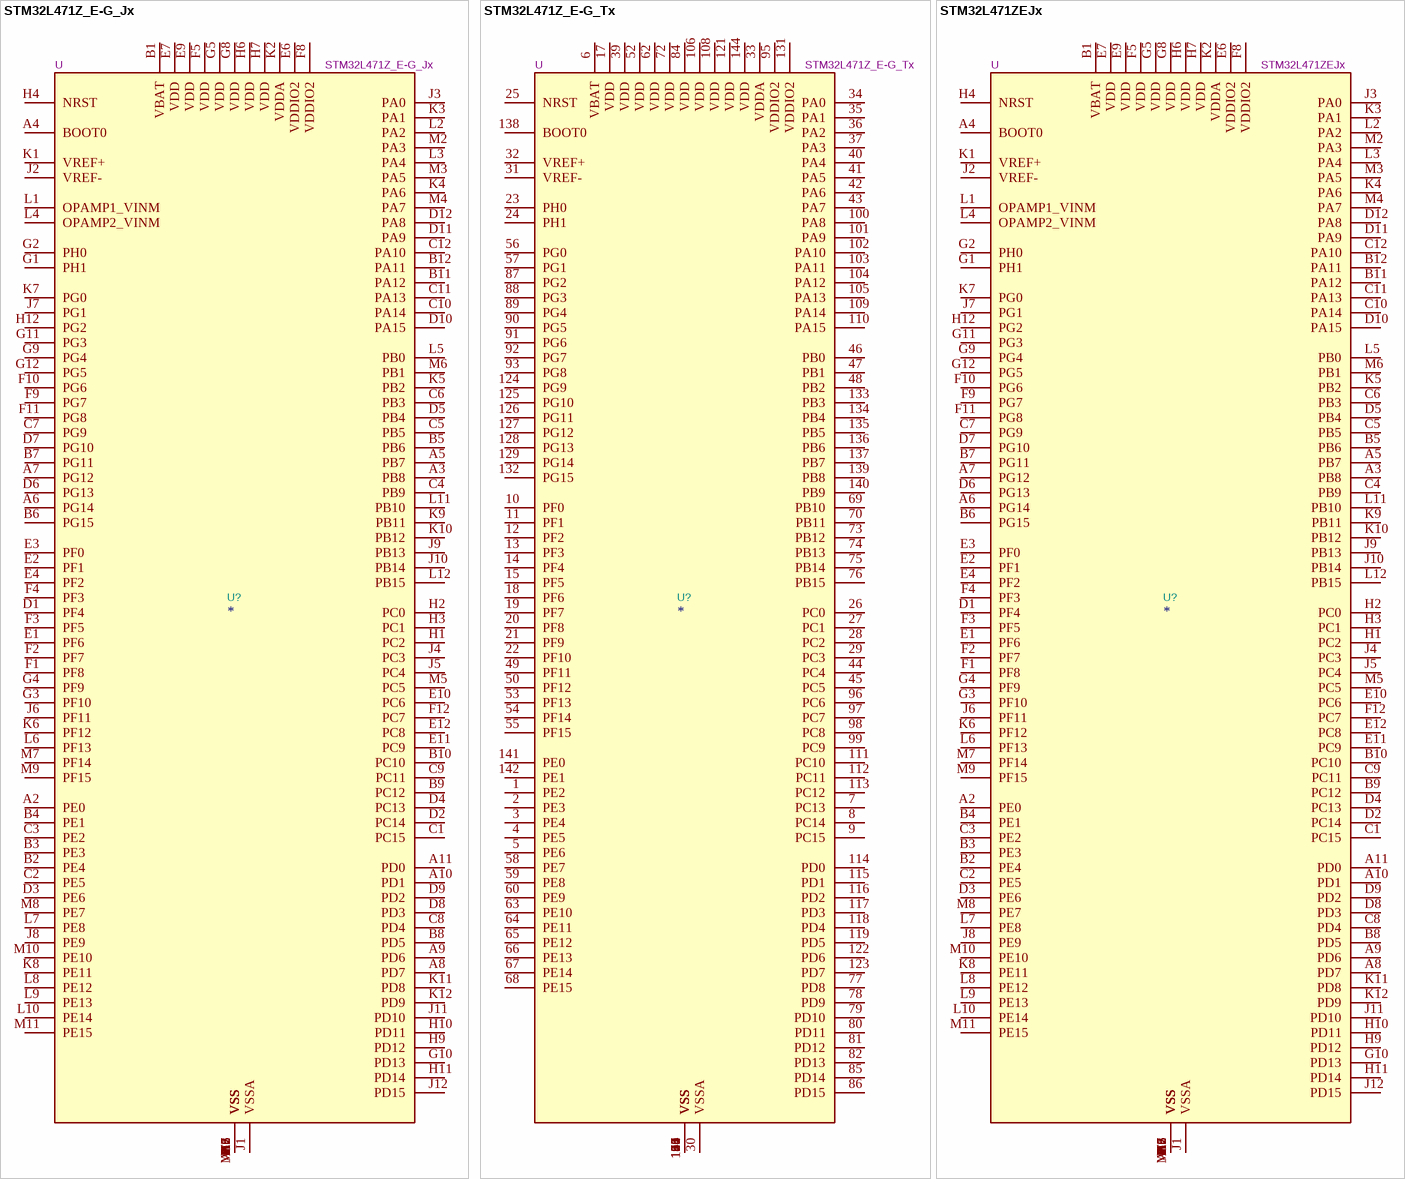
[diagram p48: symbols STM32L471Z_E-G_Jx to STM32L471ZEJx]

## STM32L471Z_E-G_Jx
designator U?  value STM32L471Z_E-G_Jx  Reference: U
STMicroelectronics Arm Cortex-M4 MCU, 512-1024KB flash, 128KB RAM, 80 MHz, 1.71-3.6V, 114 GPIO, UFBGA144; ki_keywords: Arm Cortex-M4 STM32L4 STM32L4x1; ki_fp_filters: UFBGA*10x10mm*Layout12x12*P0.8mm*; Footprint: Package_BGA:UFBGA-144_10x10mm_Layout12x12_P0.8mm; Datasheet: https://www.st.com/resource/en/datasheet/stm32l471ze.pdf; Description_: STMicroelectronics Arm Cortex-M4 MCU, 512-1024KB flash, 128KB RAM, 80 MHz, 1.71-3.6V, 114 GPIO, UFBGA144
pins: A1 VSS, A2 PE0, A3 PB8, A4 BOOT0, A5 PB7, A6 PG14, A7 PG12, A8 PD7, A9 PD6, A10 PD1, A11 PD0, A12 VSS, B1 VBAT, B2 PE4, B3 PE3, B4 PE1, B5 PB6, B6 PG15, B7 PG11, B8 PD5, B9 PC12, B10 PC10, B11 PA12, B12 PA11, C1 PC15, C2 PE5, C3 PE2, C4 PB9, C5 PB5, C6 PB3, C7 PG9, C8 PD4, C9 PC11, C10 PA14, C11 PA13, C12 PA10, D1 PF4, D2 PC14, D3 PE6, D4 PC13, D5 PB4, D6 PG13, D7 PG10, D8 PD3, D9 PD2, D10 PA15, D11 PA9, D12 PA8, E1 PF6, E2 PF1, E3 PF0, E4 PF2, E5 VSS, E6 VDDIO2, E7 VDD, E8 VSS, E9 VDD, E10 PC6, E11 PC9, E12 PC8, F1 PF8, F2 PF7, F3 PF5, F4 PF3, F5 VDD, F6 VSS, F7 VSS, F8 VDDIO2, F9 PG7, F10 PG6, F11 PG8, F12 PC7, G1 PH1, G2 PH0, G3 PF10, G4 PF9, G5 VDD, G6 VSS, G7 VSS, G8 VDD, G9 PG4, G10 PD13, G11 PG3, G12 PG5, H1 PC2, H2 PC0, H3 PC1, H4 NRST, H5 VSS, H6 VDD, H7 VDD, H8 VSS, H9 PD12, H10 PD11, H11 PD14, H12 PG2, J1 VSSA, J2 VREF-, J3 PA0, J4 PC3, J5 PC4, J6 PF11, J7 PG1, J8 PE9, J9 PB13, J10 PB14, J11 PD10, J12 PD15, K1 VREF+, K2 VDDA, K3 PA1, K4 PA6, K5 PB2, K6 PF12, K7 PG0, K8 PE11, K9 PB11, K10 PB12, K11 PD8, K12 PD9, L1 OPAMP1_VINM, L2 PA2, L3 PA4, L4 OPAMP2_VINM, L5 PB0, L6 PF13, L7 PE8, L8 PE12, L9 PE13, L10 PE14, L11 PB10, L12 PB15, M1 VSS, M2 PA3, M3 PA5, M4 PA7, M5 PC5, M6 PB1, M7 PF14, M8 PE7, M9 PF15, M10 PE10, M11 PE15, M12 VSS

## STM32L471Z_E-G_Tx
designator U?  value STM32L471Z_E-G_Tx  Reference: U
STMicroelectronics Arm Cortex-M4 MCU, 512-1024KB flash, 128KB RAM, 80 MHz, 1.71-3.6V, 114 GPIO, LQFP144; ki_keywords: Arm Cortex-M4 STM32L4 STM32L4x1; ki_fp_filters: LQFP*20x20mm*P0.5mm*; Footprint: Package_QFP:LQFP-144_20x20mm_P0.5mm; Datasheet: https://www.st.com/resource/en/datasheet/stm32l471ze.pdf; Description_: STMicroelectronics Arm Cortex-M4 MCU, 512-1024KB flash, 128KB RAM, 80 MHz, 1.71-3.6V, 114 GPIO, LQFP144
pins: 1 PE2, 2 PE3, 3 PE4, 4 PE5, 5 PE6, 6 VBAT, 7 PC13, 8 PC14, 9 PC15, 10 PF0, 11 PF1, 12 PF2, 13 PF3, 14 PF4, 15 PF5, 16 VSS, 17 VDD, 18 PF6, 19 PF7, 20 PF8, 21 PF9, 22 PF10, 23 PH0, 24 PH1, 25 NRST, 26 PC0, 27 PC1, 28 PC2, 29 PC3, 30 VSSA, 31 VREF-, 32 VREF+, 33 VDDA, 34 PA0, 35 PA1, 36 PA2, 37 PA3, 38 VSS, 39 VDD, 40 PA4, 41 PA5, 42 PA6, 43 PA7, 44 PC4, 45 PC5, 46 PB0, 47 PB1, 48 PB2, 49 PF11, 50 PF12, 51 VSS, 52 VDD, 53 PF13, 54 PF14, 55 PF15, 56 PG0, 57 PG1, 58 PE7, 59 PE8, 60 PE9, 61 VSS, 62 VDD, 63 PE10, 64 PE11, 65 PE12, 66 PE13, 67 PE14, 68 PE15, 69 PB10, 70 PB11, 71 VSS, 72 VDD, 73 PB12, 74 PB13, 75 PB14, 76 PB15, 77 PD8, 78 PD9, 79 PD10, 80 PD11, 81 PD12, 82 PD13, 83 VSS, 84 VDD, 85 PD14, 86 PD15, 87 PG2, 88 PG3, 89 PG4, 90 PG5, 91 PG6, 92 PG7, 93 PG8, 94 VSS, 95 VDDIO2, 96 PC6, 97 PC7, 98 PC8, 99 PC9, 100 PA8, 101 PA9, 102 PA10, 103 PA11, 104 PA12, 105 PA13, 106 VDD, 107 VSS, 108 VDD, 109 PA14, 110 PA15, 111 PC10, 112 PC11, 113 PC12, 114 PD0, 115 PD1, 116 PD2, 117 PD3, 118 PD4, 119 PD5, 120 VSS, 121 VDD, 122 PD6, 123 PD7, 124 PG9, 125 PG10, 126 PG11, 127 PG12, 128 PG13, 129 PG14, 130 VSS, 131 VDDIO2, 132 PG15, 133 PB3, 134 PB4, 135 PB5, 136 PB6, 137 PB7, 138 BOOT0, 139 PB8, 140 PB9, 141 PE0, 142 PE1, 143 VSS, 144 VDD

## STM32L471ZEJx
designator U?  value STM32L471ZEJx  Reference: U
STMicroelectronics Arm Cortex-M4 MCU, 512KB flash, 128KB RAM, 80 MHz, 1.71-3.6V, 114 GPIO, UFBGA144; ki_keywords: Arm Cortex-M4 STM32L4 STM32L4x1; ki_fp_filters: UFBGA*10x10mm*Layout12x12*P0.8mm*; Footprint: Package_BGA:UFBGA-144_10x10mm_Layout12x12_P0.8mm; Datasheet: https://www.st.com/resource/en/datasheet/stm32l471ze.pdf; Description_: STMicroelectronics Arm Cortex-M4 MCU, 512KB flash, 128KB RAM, 80 MHz, 1.71-3.6V, 114 GPIO, UFBGA144
pins: A1 VSS, A2 PE0, A3 PB8, A4 BOOT0, A5 PB7, A6 PG14, A7 PG12, A8 PD7, A9 PD6, A10 PD1, A11 PD0, A12 VSS, B1 VBAT, B2 PE4, B3 PE3, B4 PE1, B5 PB6, B6 PG15, B7 PG11, B8 PD5, B9 PC12, B10 PC10, B11 PA12, B12 PA11, C1 PC15, C2 PE5, C3 PE2, C4 PB9, C5 PB5, C6 PB3, C7 PG9, C8 PD4, C9 PC11, C10 PA14, C11 PA13, C12 PA10, D1 PF4, D2 PC14, D3 PE6, D4 PC13, D5 PB4, D6 PG13, D7 PG10, D8 PD3, D9 PD2, D10 PA15, D11 PA9, D12 PA8, E1 PF6, E2 PF1, E3 PF0, E4 PF2, E5 VSS, E6 VDDIO2, E7 VDD, E8 VSS, E9 VDD, E10 PC6, E11 PC9, E12 PC8, F1 PF8, F2 PF7, F3 PF5, F4 PF3, F5 VDD, F6 VSS, F7 VSS, F8 VDDIO2, F9 PG7, F10 PG6, F11 PG8, F12 PC7, G1 PH1, G2 PH0, G3 PF10, G4 PF9, G5 VDD, G6 VSS, G7 VSS, G8 VDD, G9 PG4, G10 PD13, G11 PG3, G12 PG5, H1 PC2, H2 PC0, H3 PC1, H4 NRST, H5 VSS, H6 VDD, H7 VDD, H8 VSS, H9 PD12, H10 PD11, H11 PD14, H12 PG2, J1 VSSA, J2 VREF-, J3 PA0, J4 PC3, J5 PC4, J6 PF11, J7 PG1, J8 PE9, J9 PB13, J10 PB14, J11 PD10, J12 PD15, K1 VREF+, K2 VDDA, K3 PA1, K4 PA6, K5 PB2, K6 PF12, K7 PG0, K8 PE11, K9 PB11, K10 PB12, K11 PD8, K12 PD9, L1 OPAMP1_VINM, L2 PA2, L3 PA4, L4 OPAMP2_VINM, L5 PB0, L6 PF13, L7 PE8, L8 PE12, L9 PE13, L10 PE14, L11 PB10, L12 PB15, M1 VSS, M2 PA3, M3 PA5, M4 PA7, M5 PC5, M6 PB1, M7 PF14, M8 PE7, M9 PF15, M10 PE10, M11 PE15, M12 VSS

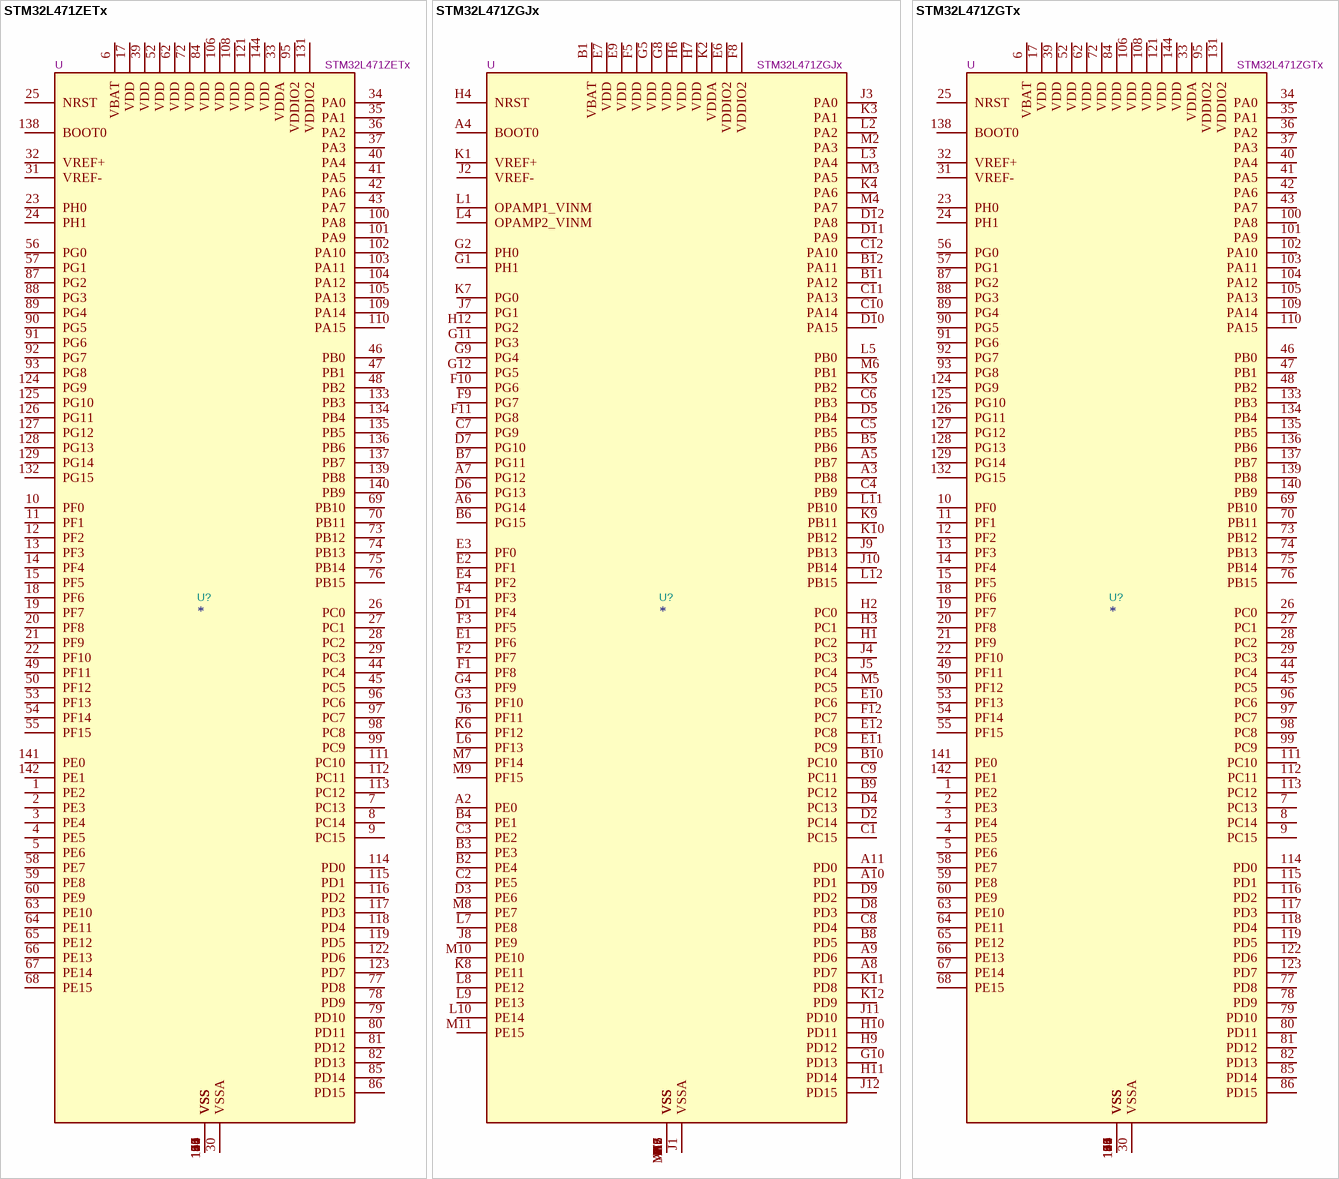
[diagram p49: symbols STM32L471ZETx to STM32L471ZGTx]

## STM32L471ZETx
designator U?  value STM32L471ZETx  Reference: U
STMicroelectronics Arm Cortex-M4 MCU, 512KB flash, 128KB RAM, 80 MHz, 1.71-3.6V, 114 GPIO, LQFP144; ki_keywords: Arm Cortex-M4 STM32L4 STM32L4x1; ki_fp_filters: LQFP*20x20mm*P0.5mm*; Footprint: Package_QFP:LQFP-144_20x20mm_P0.5mm; Datasheet: https://www.st.com/resource/en/datasheet/stm32l471ze.pdf; Description_: STMicroelectronics Arm Cortex-M4 MCU, 512KB flash, 128KB RAM, 80 MHz, 1.71-3.6V, 114 GPIO, LQFP144
pins: 1 PE2, 2 PE3, 3 PE4, 4 PE5, 5 PE6, 6 VBAT, 7 PC13, 8 PC14, 9 PC15, 10 PF0, 11 PF1, 12 PF2, 13 PF3, 14 PF4, 15 PF5, 16 VSS, 17 VDD, 18 PF6, 19 PF7, 20 PF8, 21 PF9, 22 PF10, 23 PH0, 24 PH1, 25 NRST, 26 PC0, 27 PC1, 28 PC2, 29 PC3, 30 VSSA, 31 VREF-, 32 VREF+, 33 VDDA, 34 PA0, 35 PA1, 36 PA2, 37 PA3, 38 VSS, 39 VDD, 40 PA4, 41 PA5, 42 PA6, 43 PA7, 44 PC4, 45 PC5, 46 PB0, 47 PB1, 48 PB2, 49 PF11, 50 PF12, 51 VSS, 52 VDD, 53 PF13, 54 PF14, 55 PF15, 56 PG0, 57 PG1, 58 PE7, 59 PE8, 60 PE9, 61 VSS, 62 VDD, 63 PE10, 64 PE11, 65 PE12, 66 PE13, 67 PE14, 68 PE15, 69 PB10, 70 PB11, 71 VSS, 72 VDD, 73 PB12, 74 PB13, 75 PB14, 76 PB15, 77 PD8, 78 PD9, 79 PD10, 80 PD11, 81 PD12, 82 PD13, 83 VSS, 84 VDD, 85 PD14, 86 PD15, 87 PG2, 88 PG3, 89 PG4, 90 PG5, 91 PG6, 92 PG7, 93 PG8, 94 VSS, 95 VDDIO2, 96 PC6, 97 PC7, 98 PC8, 99 PC9, 100 PA8, 101 PA9, 102 PA10, 103 PA11, 104 PA12, 105 PA13, 106 VDD, 107 VSS, 108 VDD, 109 PA14, 110 PA15, 111 PC10, 112 PC11, 113 PC12, 114 PD0, 115 PD1, 116 PD2, 117 PD3, 118 PD4, 119 PD5, 120 VSS, 121 VDD, 122 PD6, 123 PD7, 124 PG9, 125 PG10, 126 PG11, 127 PG12, 128 PG13, 129 PG14, 130 VSS, 131 VDDIO2, 132 PG15, 133 PB3, 134 PB4, 135 PB5, 136 PB6, 137 PB7, 138 BOOT0, 139 PB8, 140 PB9, 141 PE0, 142 PE1, 143 VSS, 144 VDD

## STM32L471ZGJx
designator U?  value STM32L471ZGJx  Reference: U
STMicroelectronics Arm Cortex-M4 MCU, 1024KB flash, 128KB RAM, 80 MHz, 1.71-3.6V, 114 GPIO, UFBGA144; ki_keywords: Arm Cortex-M4 STM32L4 STM32L4x1; ki_fp_filters: UFBGA*10x10mm*Layout12x12*P0.8mm*; Footprint: Package_BGA:UFBGA-144_10x10mm_Layout12x12_P0.8mm; Datasheet: https://www.st.com/resource/en/datasheet/stm32l471zg.pdf; Description_: STMicroelectronics Arm Cortex-M4 MCU, 1024KB flash, 128KB RAM, 80 MHz, 1.71-3.6V, 114 GPIO, UFBGA144
pins: A1 VSS, A2 PE0, A3 PB8, A4 BOOT0, A5 PB7, A6 PG14, A7 PG12, A8 PD7, A9 PD6, A10 PD1, A11 PD0, A12 VSS, B1 VBAT, B2 PE4, B3 PE3, B4 PE1, B5 PB6, B6 PG15, B7 PG11, B8 PD5, B9 PC12, B10 PC10, B11 PA12, B12 PA11, C1 PC15, C2 PE5, C3 PE2, C4 PB9, C5 PB5, C6 PB3, C7 PG9, C8 PD4, C9 PC11, C10 PA14, C11 PA13, C12 PA10, D1 PF4, D2 PC14, D3 PE6, D4 PC13, D5 PB4, D6 PG13, D7 PG10, D8 PD3, D9 PD2, D10 PA15, D11 PA9, D12 PA8, E1 PF6, E2 PF1, E3 PF0, E4 PF2, E5 VSS, E6 VDDIO2, E7 VDD, E8 VSS, E9 VDD, E10 PC6, E11 PC9, E12 PC8, F1 PF8, F2 PF7, F3 PF5, F4 PF3, F5 VDD, F6 VSS, F7 VSS, F8 VDDIO2, F9 PG7, F10 PG6, F11 PG8, F12 PC7, G1 PH1, G2 PH0, G3 PF10, G4 PF9, G5 VDD, G6 VSS, G7 VSS, G8 VDD, G9 PG4, G10 PD13, G11 PG3, G12 PG5, H1 PC2, H2 PC0, H3 PC1, H4 NRST, H5 VSS, H6 VDD, H7 VDD, H8 VSS, H9 PD12, H10 PD11, H11 PD14, H12 PG2, J1 VSSA, J2 VREF-, J3 PA0, J4 PC3, J5 PC4, J6 PF11, J7 PG1, J8 PE9, J9 PB13, J10 PB14, J11 PD10, J12 PD15, K1 VREF+, K2 VDDA, K3 PA1, K4 PA6, K5 PB2, K6 PF12, K7 PG0, K8 PE11, K9 PB11, K10 PB12, K11 PD8, K12 PD9, L1 OPAMP1_VINM, L2 PA2, L3 PA4, L4 OPAMP2_VINM, L5 PB0, L6 PF13, L7 PE8, L8 PE12, L9 PE13, L10 PE14, L11 PB10, L12 PB15, M1 VSS, M2 PA3, M3 PA5, M4 PA7, M5 PC5, M6 PB1, M7 PF14, M8 PE7, M9 PF15, M10 PE10, M11 PE15, M12 VSS

## STM32L471ZGTx
designator U?  value STM32L471ZGTx  Reference: U
STMicroelectronics Arm Cortex-M4 MCU, 1024KB flash, 128KB RAM, 80 MHz, 1.71-3.6V, 114 GPIO, LQFP144; ki_keywords: Arm Cortex-M4 STM32L4 STM32L4x1; ki_fp_filters: LQFP*20x20mm*P0.5mm*; Footprint: Package_QFP:LQFP-144_20x20mm_P0.5mm; Datasheet: https://www.st.com/resource/en/datasheet/stm32l471zg.pdf; Description_: STMicroelectronics Arm Cortex-M4 MCU, 1024KB flash, 128KB RAM, 80 MHz, 1.71-3.6V, 114 GPIO, LQFP144
pins: 1 PE2, 2 PE3, 3 PE4, 4 PE5, 5 PE6, 6 VBAT, 7 PC13, 8 PC14, 9 PC15, 10 PF0, 11 PF1, 12 PF2, 13 PF3, 14 PF4, 15 PF5, 16 VSS, 17 VDD, 18 PF6, 19 PF7, 20 PF8, 21 PF9, 22 PF10, 23 PH0, 24 PH1, 25 NRST, 26 PC0, 27 PC1, 28 PC2, 29 PC3, 30 VSSA, 31 VREF-, 32 VREF+, 33 VDDA, 34 PA0, 35 PA1, 36 PA2, 37 PA3, 38 VSS, 39 VDD, 40 PA4, 41 PA5, 42 PA6, 43 PA7, 44 PC4, 45 PC5, 46 PB0, 47 PB1, 48 PB2, 49 PF11, 50 PF12, 51 VSS, 52 VDD, 53 PF13, 54 PF14, 55 PF15, 56 PG0, 57 PG1, 58 PE7, 59 PE8, 60 PE9, 61 VSS, 62 VDD, 63 PE10, 64 PE11, 65 PE12, 66 PE13, 67 PE14, 68 PE15, 69 PB10, 70 PB11, 71 VSS, 72 VDD, 73 PB12, 74 PB13, 75 PB14, 76 PB15, 77 PD8, 78 PD9, 79 PD10, 80 PD11, 81 PD12, 82 PD13, 83 VSS, 84 VDD, 85 PD14, 86 PD15, 87 PG2, 88 PG3, 89 PG4, 90 PG5, 91 PG6, 92 PG7, 93 PG8, 94 VSS, 95 VDDIO2, 96 PC6, 97 PC7, 98 PC8, 99 PC9, 100 PA8, 101 PA9, 102 PA10, 103 PA11, 104 PA12, 105 PA13, 106 VDD, 107 VSS, 108 VDD, 109 PA14, 110 PA15, 111 PC10, 112 PC11, 113 PC12, 114 PD0, 115 PD1, 116 PD2, 117 PD3, 118 PD4, 119 PD5, 120 VSS, 121 VDD, 122 PD6, 123 PD7, 124 PG9, 125 PG10, 126 PG11, 127 PG12, 128 PG13, 129 PG14, 130 VSS, 131 VDDIO2, 132 PG15, 133 PB3, 134 PB4, 135 PB5, 136 PB6, 137 PB7, 138 BOOT0, 139 PB8, 140 PB9, 141 PE0, 142 PE1, 143 VSS, 144 VDD

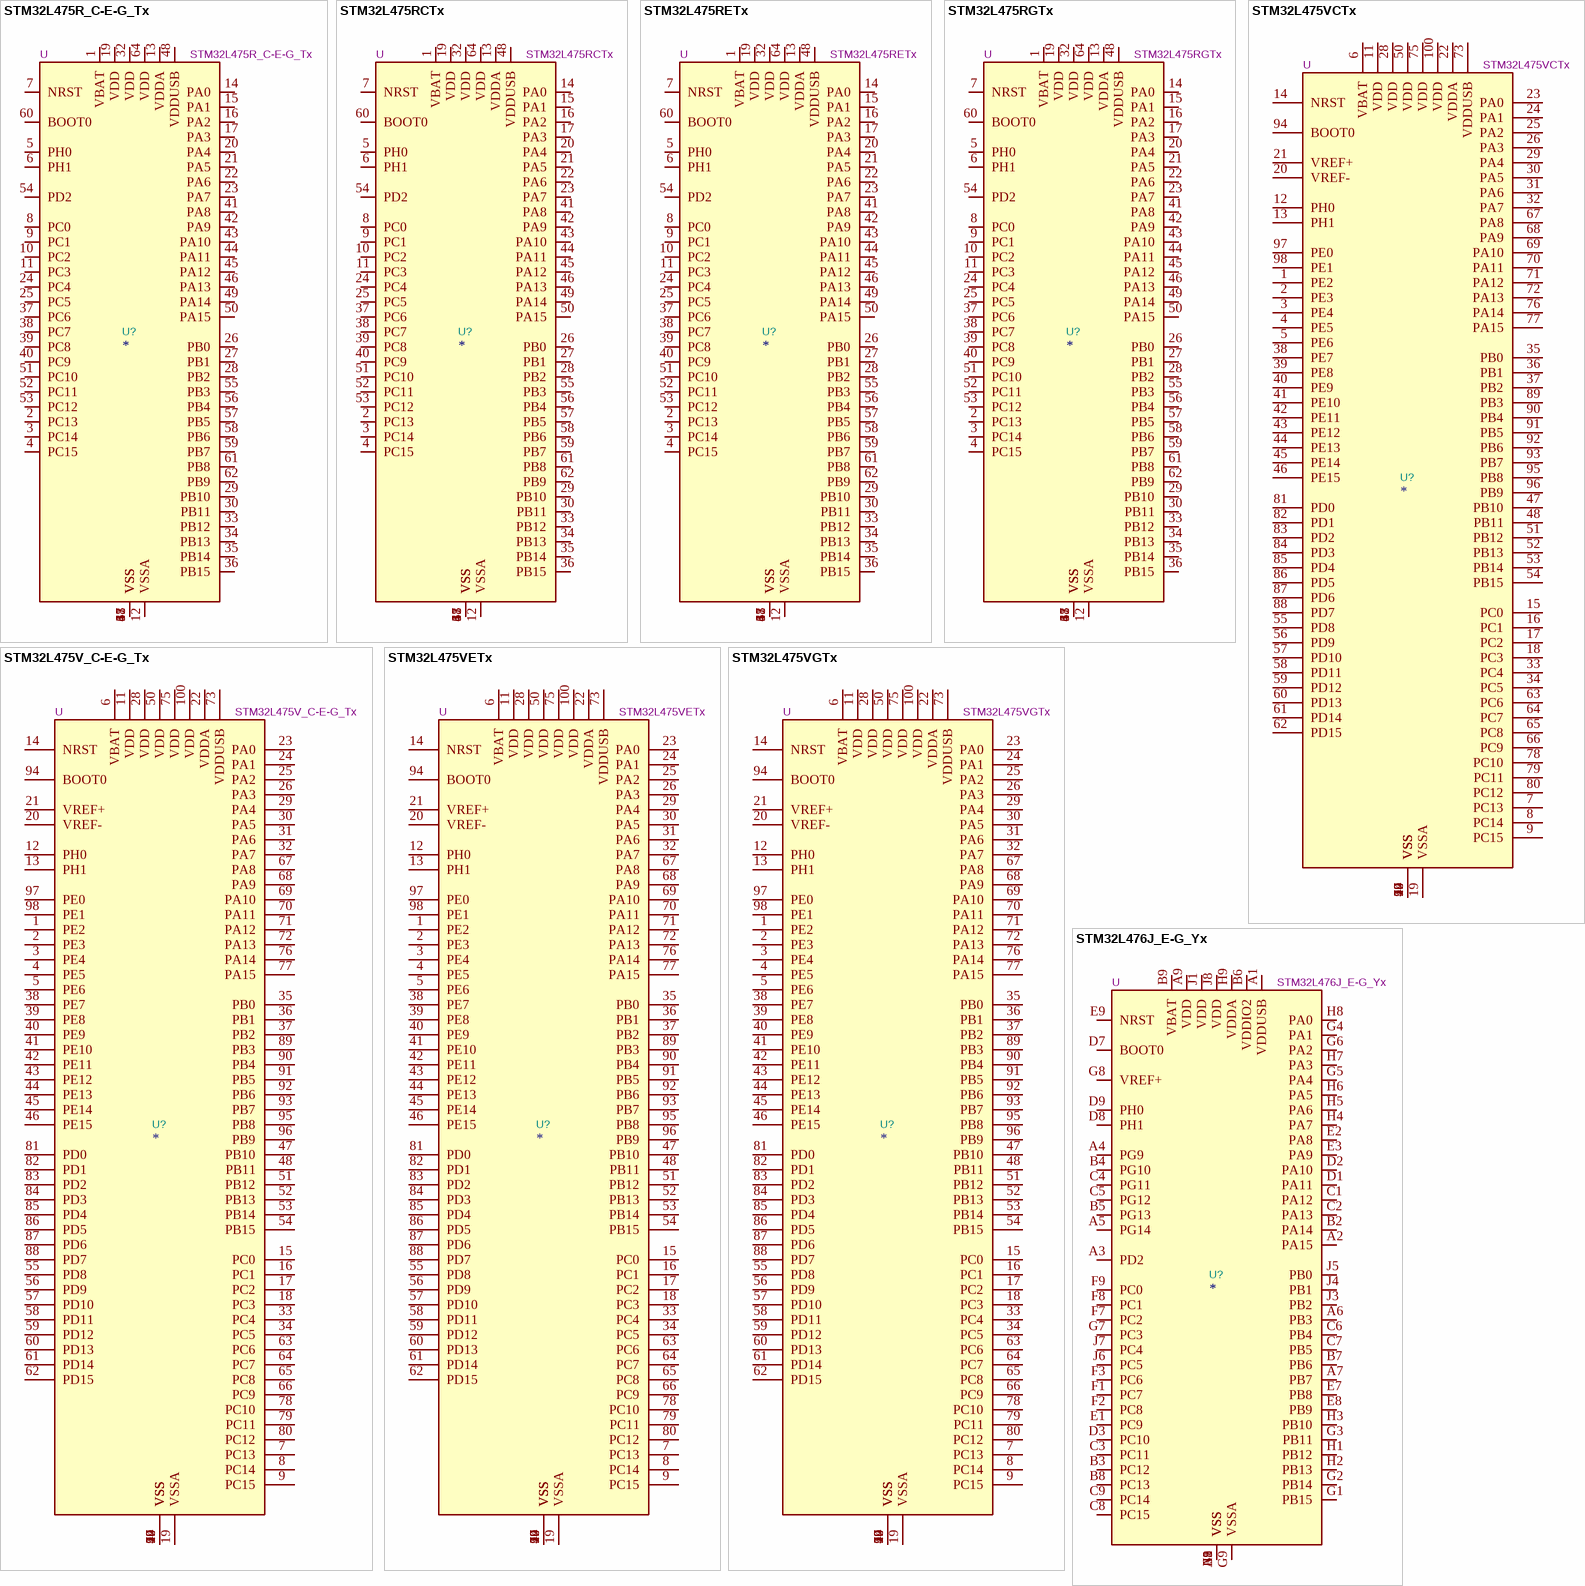
[diagram p50: symbols STM32L475R_C-E-G_Tx to STM32L476J_E-G_Yx]

## STM32L475R_C-E-G_Tx
designator U?  value STM32L475R_C-E-G_Tx  Reference: U
STMicroelectronics Arm Cortex-M4 MCU, 256-1024KB flash, 128KB RAM, 80 MHz, 1.71-3.6V, 51 GPIO, LQFP64; ki_keywords: Arm Cortex-M4 STM32L4 STM32L4x5; ki_fp_filters: LQFP*10x10mm*P0.5mm*; Footprint: Package_QFP:LQFP-64_10x10mm_P0.5mm; Datasheet: https://www.st.com/resource/en/datasheet/stm32l475rc.pdf; Description_: STMicroelectronics Arm Cortex-M4 MCU, 256-1024KB flash, 128KB RAM, 80 MHz, 1.71-3.6V, 51 GPIO, LQFP64
pins: 1 VBAT, 2 PC13, 3 PC14, 4 PC15, 5 PH0, 6 PH1, 7 NRST, 8 PC0, 9 PC1, 10 PC2, 11 PC3, 12 VSSA, 13 VDDA, 14 PA0, 15 PA1, 16 PA2, 17 PA3, 18 VSS, 19 VDD, 20 PA4, 21 PA5, 22 PA6, 23 PA7, 24 PC4, 25 PC5, 26 PB0, 27 PB1, 28 PB2, 29 PB10, 30 PB11, 31 VSS, 32 VDD, 33 PB12, 34 PB13, 35 PB14, 36 PB15, 37 PC6, 38 PC7, 39 PC8, 40 PC9, 41 PA8, 42 PA9, 43 PA10, 44 PA11, 45 PA12, 46 PA13, 47 VSS, 48 VDDUSB, 49 PA14, 50 PA15, 51 PC10, 52 PC11, 53 PC12, 54 PD2, 55 PB3, 56 PB4, 57 PB5, 58 PB6, 59 PB7, 60 BOOT0, 61 PB8, 62 PB9, 63 VSS, 64 VDD

## STM32L475RCTx
designator U?  value STM32L475RCTx  Reference: U
STMicroelectronics Arm Cortex-M4 MCU, 256KB flash, 128KB RAM, 80 MHz, 1.71-3.6V, 51 GPIO, LQFP64; ki_keywords: Arm Cortex-M4 STM32L4 STM32L4x5; ki_fp_filters: LQFP*10x10mm*P0.5mm*; Footprint: Package_QFP:LQFP-64_10x10mm_P0.5mm; Datasheet: https://www.st.com/resource/en/datasheet/stm32l475rc.pdf; Description_: STMicroelectronics Arm Cortex-M4 MCU, 256KB flash, 128KB RAM, 80 MHz, 1.71-3.6V, 51 GPIO, LQFP64
pins: 1 VBAT, 2 PC13, 3 PC14, 4 PC15, 5 PH0, 6 PH1, 7 NRST, 8 PC0, 9 PC1, 10 PC2, 11 PC3, 12 VSSA, 13 VDDA, 14 PA0, 15 PA1, 16 PA2, 17 PA3, 18 VSS, 19 VDD, 20 PA4, 21 PA5, 22 PA6, 23 PA7, 24 PC4, 25 PC5, 26 PB0, 27 PB1, 28 PB2, 29 PB10, 30 PB11, 31 VSS, 32 VDD, 33 PB12, 34 PB13, 35 PB14, 36 PB15, 37 PC6, 38 PC7, 39 PC8, 40 PC9, 41 PA8, 42 PA9, 43 PA10, 44 PA11, 45 PA12, 46 PA13, 47 VSS, 48 VDDUSB, 49 PA14, 50 PA15, 51 PC10, 52 PC11, 53 PC12, 54 PD2, 55 PB3, 56 PB4, 57 PB5, 58 PB6, 59 PB7, 60 BOOT0, 61 PB8, 62 PB9, 63 VSS, 64 VDD

## STM32L475RETx
designator U?  value STM32L475RETx  Reference: U
STMicroelectronics Arm Cortex-M4 MCU, 512KB flash, 128KB RAM, 80 MHz, 1.71-3.6V, 51 GPIO, LQFP64; ki_keywords: Arm Cortex-M4 STM32L4 STM32L4x5; ki_fp_filters: LQFP*10x10mm*P0.5mm*; Footprint: Package_QFP:LQFP-64_10x10mm_P0.5mm; Datasheet: https://www.st.com/resource/en/datasheet/stm32l475re.pdf; Description_: STMicroelectronics Arm Cortex-M4 MCU, 512KB flash, 128KB RAM, 80 MHz, 1.71-3.6V, 51 GPIO, LQFP64
pins: 1 VBAT, 2 PC13, 3 PC14, 4 PC15, 5 PH0, 6 PH1, 7 NRST, 8 PC0, 9 PC1, 10 PC2, 11 PC3, 12 VSSA, 13 VDDA, 14 PA0, 15 PA1, 16 PA2, 17 PA3, 18 VSS, 19 VDD, 20 PA4, 21 PA5, 22 PA6, 23 PA7, 24 PC4, 25 PC5, 26 PB0, 27 PB1, 28 PB2, 29 PB10, 30 PB11, 31 VSS, 32 VDD, 33 PB12, 34 PB13, 35 PB14, 36 PB15, 37 PC6, 38 PC7, 39 PC8, 40 PC9, 41 PA8, 42 PA9, 43 PA10, 44 PA11, 45 PA12, 46 PA13, 47 VSS, 48 VDDUSB, 49 PA14, 50 PA15, 51 PC10, 52 PC11, 53 PC12, 54 PD2, 55 PB3, 56 PB4, 57 PB5, 58 PB6, 59 PB7, 60 BOOT0, 61 PB8, 62 PB9, 63 VSS, 64 VDD

## STM32L475RGTx
designator U?  value STM32L475RGTx  Reference: U
STMicroelectronics Arm Cortex-M4 MCU, 1024KB flash, 128KB RAM, 80 MHz, 1.71-3.6V, 51 GPIO, LQFP64; ki_keywords: Arm Cortex-M4 STM32L4 STM32L4x5; ki_fp_filters: LQFP*10x10mm*P0.5mm*; Footprint: Package_QFP:LQFP-64_10x10mm_P0.5mm; Datasheet: https://www.st.com/resource/en/datasheet/stm32l475rg.pdf; Description_: STMicroelectronics Arm Cortex-M4 MCU, 1024KB flash, 128KB RAM, 80 MHz, 1.71-3.6V, 51 GPIO, LQFP64
pins: 1 VBAT, 2 PC13, 3 PC14, 4 PC15, 5 PH0, 6 PH1, 7 NRST, 8 PC0, 9 PC1, 10 PC2, 11 PC3, 12 VSSA, 13 VDDA, 14 PA0, 15 PA1, 16 PA2, 17 PA3, 18 VSS, 19 VDD, 20 PA4, 21 PA5, 22 PA6, 23 PA7, 24 PC4, 25 PC5, 26 PB0, 27 PB1, 28 PB2, 29 PB10, 30 PB11, 31 VSS, 32 VDD, 33 PB12, 34 PB13, 35 PB14, 36 PB15, 37 PC6, 38 PC7, 39 PC8, 40 PC9, 41 PA8, 42 PA9, 43 PA10, 44 PA11, 45 PA12, 46 PA13, 47 VSS, 48 VDDUSB, 49 PA14, 50 PA15, 51 PC10, 52 PC11, 53 PC12, 54 PD2, 55 PB3, 56 PB4, 57 PB5, 58 PB6, 59 PB7, 60 BOOT0, 61 PB8, 62 PB9, 63 VSS, 64 VDD

## STM32L475V_C-E-G_Tx
designator U?  value STM32L475V_C-E-G_Tx  Reference: U
STMicroelectronics Arm Cortex-M4 MCU, 256-1024KB flash, 128KB RAM, 80 MHz, 1.71-3.6V, 82 GPIO, LQFP100; ki_keywords: Arm Cortex-M4 STM32L4 STM32L4x5; ki_fp_filters: LQFP*14x14mm*P0.5mm*; Footprint: Package_QFP:LQFP-100_14x14mm_P0.5mm; Datasheet: https://www.st.com/resource/en/datasheet/stm32l475vc.pdf; Description_: STMicroelectronics Arm Cortex-M4 MCU, 256-1024KB flash, 128KB RAM, 80 MHz, 1.71-3.6V, 82 GPIO, LQFP100
pins: 1 PE2, 2 PE3, 3 PE4, 4 PE5, 5 PE6, 6 VBAT, 7 PC13, 8 PC14, 9 PC15, 10 VSS, 11 VDD, 12 PH0, 13 PH1, 14 NRST, 15 PC0, 16 PC1, 17 PC2, 18 PC3, 19 VSSA, 20 VREF-, 21 VREF+, 22 VDDA, 23 PA0, 24 PA1, 25 PA2, 26 PA3, 27 VSS, 28 VDD, 29 PA4, 30 PA5, 31 PA6, 32 PA7, 33 PC4, 34 PC5, 35 PB0, 36 PB1, 37 PB2, 38 PE7, 39 PE8, 40 PE9, 41 PE10, 42 PE11, 43 PE12, 44 PE13, 45 PE14, 46 PE15, 47 PB10, 48 PB11, 49 VSS, 50 VDD, 51 PB12, 52 PB13, 53 PB14, 54 PB15, 55 PD8, 56 PD9, 57 PD10, 58 PD11, 59 PD12, 60 PD13, 61 PD14, 62 PD15, 63 PC6, 64 PC7, 65 PC8, 66 PC9, 67 PA8, 68 PA9, 69 PA10, 70 PA11, 71 PA12, 72 PA13, 73 VDDUSB, 74 VSS, 75 VDD, 76 PA14, 77 PA15, 78 PC10, 79 PC11, 80 PC12, 81 PD0, 82 PD1, 83 PD2, 84 PD3, 85 PD4, 86 PD5, 87 PD6, 88 PD7, 89 PB3, 90 PB4, 91 PB5, 92 PB6, 93 PB7, 94 BOOT0, 95 PB8, 96 PB9, 97 PE0, 98 PE1, 99 VSS, 100 VDD

## STM32L475VCTx
designator U?  value STM32L475VCTx  Reference: U
STMicroelectronics Arm Cortex-M4 MCU, 256KB flash, 128KB RAM, 80 MHz, 1.71-3.6V, 82 GPIO, LQFP100; ki_keywords: Arm Cortex-M4 STM32L4 STM32L4x5; ki_fp_filters: LQFP*14x14mm*P0.5mm*; Footprint: Package_QFP:LQFP-100_14x14mm_P0.5mm; Datasheet: https://www.st.com/resource/en/datasheet/stm32l475vc.pdf; Description_: STMicroelectronics Arm Cortex-M4 MCU, 256KB flash, 128KB RAM, 80 MHz, 1.71-3.6V, 82 GPIO, LQFP100
pins: 1 PE2, 2 PE3, 3 PE4, 4 PE5, 5 PE6, 6 VBAT, 7 PC13, 8 PC14, 9 PC15, 10 VSS, 11 VDD, 12 PH0, 13 PH1, 14 NRST, 15 PC0, 16 PC1, 17 PC2, 18 PC3, 19 VSSA, 20 VREF-, 21 VREF+, 22 VDDA, 23 PA0, 24 PA1, 25 PA2, 26 PA3, 27 VSS, 28 VDD, 29 PA4, 30 PA5, 31 PA6, 32 PA7, 33 PC4, 34 PC5, 35 PB0, 36 PB1, 37 PB2, 38 PE7, 39 PE8, 40 PE9, 41 PE10, 42 PE11, 43 PE12, 44 PE13, 45 PE14, 46 PE15, 47 PB10, 48 PB11, 49 VSS, 50 VDD, 51 PB12, 52 PB13, 53 PB14, 54 PB15, 55 PD8, 56 PD9, 57 PD10, 58 PD11, 59 PD12, 60 PD13, 61 PD14, 62 PD15, 63 PC6, 64 PC7, 65 PC8, 66 PC9, 67 PA8, 68 PA9, 69 PA10, 70 PA11, 71 PA12, 72 PA13, 73 VDDUSB, 74 VSS, 75 VDD, 76 PA14, 77 PA15, 78 PC10, 79 PC11, 80 PC12, 81 PD0, 82 PD1, 83 PD2, 84 PD3, 85 PD4, 86 PD5, 87 PD6, 88 PD7, 89 PB3, 90 PB4, 91 PB5, 92 PB6, 93 PB7, 94 BOOT0, 95 PB8, 96 PB9, 97 PE0, 98 PE1, 99 VSS, 100 VDD

## STM32L475VETx
designator U?  value STM32L475VETx  Reference: U
STMicroelectronics Arm Cortex-M4 MCU, 512KB flash, 128KB RAM, 80 MHz, 1.71-3.6V, 82 GPIO, LQFP100; ki_keywords: Arm Cortex-M4 STM32L4 STM32L4x5; ki_fp_filters: LQFP*14x14mm*P0.5mm*; Footprint: Package_QFP:LQFP-100_14x14mm_P0.5mm; Datasheet: https://www.st.com/resource/en/datasheet/stm32l475ve.pdf; Description_: STMicroelectronics Arm Cortex-M4 MCU, 512KB flash, 128KB RAM, 80 MHz, 1.71-3.6V, 82 GPIO, LQFP100
pins: 1 PE2, 2 PE3, 3 PE4, 4 PE5, 5 PE6, 6 VBAT, 7 PC13, 8 PC14, 9 PC15, 10 VSS, 11 VDD, 12 PH0, 13 PH1, 14 NRST, 15 PC0, 16 PC1, 17 PC2, 18 PC3, 19 VSSA, 20 VREF-, 21 VREF+, 22 VDDA, 23 PA0, 24 PA1, 25 PA2, 26 PA3, 27 VSS, 28 VDD, 29 PA4, 30 PA5, 31 PA6, 32 PA7, 33 PC4, 34 PC5, 35 PB0, 36 PB1, 37 PB2, 38 PE7, 39 PE8, 40 PE9, 41 PE10, 42 PE11, 43 PE12, 44 PE13, 45 PE14, 46 PE15, 47 PB10, 48 PB11, 49 VSS, 50 VDD, 51 PB12, 52 PB13, 53 PB14, 54 PB15, 55 PD8, 56 PD9, 57 PD10, 58 PD11, 59 PD12, 60 PD13, 61 PD14, 62 PD15, 63 PC6, 64 PC7, 65 PC8, 66 PC9, 67 PA8, 68 PA9, 69 PA10, 70 PA11, 71 PA12, 72 PA13, 73 VDDUSB, 74 VSS, 75 VDD, 76 PA14, 77 PA15, 78 PC10, 79 PC11, 80 PC12, 81 PD0, 82 PD1, 83 PD2, 84 PD3, 85 PD4, 86 PD5, 87 PD6, 88 PD7, 89 PB3, 90 PB4, 91 PB5, 92 PB6, 93 PB7, 94 BOOT0, 95 PB8, 96 PB9, 97 PE0, 98 PE1, 99 VSS, 100 VDD

## STM32L475VGTx
designator U?  value STM32L475VGTx  Reference: U
STMicroelectronics Arm Cortex-M4 MCU, 1024KB flash, 128KB RAM, 80 MHz, 1.71-3.6V, 82 GPIO, LQFP100; ki_keywords: Arm Cortex-M4 STM32L4 STM32L4x5; ki_fp_filters: LQFP*14x14mm*P0.5mm*; Footprint: Package_QFP:LQFP-100_14x14mm_P0.5mm; Datasheet: https://www.st.com/resource/en/datasheet/stm32l475vg.pdf; Description_: STMicroelectronics Arm Cortex-M4 MCU, 1024KB flash, 128KB RAM, 80 MHz, 1.71-3.6V, 82 GPIO, LQFP100
pins: 1 PE2, 2 PE3, 3 PE4, 4 PE5, 5 PE6, 6 VBAT, 7 PC13, 8 PC14, 9 PC15, 10 VSS, 11 VDD, 12 PH0, 13 PH1, 14 NRST, 15 PC0, 16 PC1, 17 PC2, 18 PC3, 19 VSSA, 20 VREF-, 21 VREF+, 22 VDDA, 23 PA0, 24 PA1, 25 PA2, 26 PA3, 27 VSS, 28 VDD, 29 PA4, 30 PA5, 31 PA6, 32 PA7, 33 PC4, 34 PC5, 35 PB0, 36 PB1, 37 PB2, 38 PE7, 39 PE8, 40 PE9, 41 PE10, 42 PE11, 43 PE12, 44 PE13, 45 PE14, 46 PE15, 47 PB10, 48 PB11, 49 VSS, 50 VDD, 51 PB12, 52 PB13, 53 PB14, 54 PB15, 55 PD8, 56 PD9, 57 PD10, 58 PD11, 59 PD12, 60 PD13, 61 PD14, 62 PD15, 63 PC6, 64 PC7, 65 PC8, 66 PC9, 67 PA8, 68 PA9, 69 PA10, 70 PA11, 71 PA12, 72 PA13, 73 VDDUSB, 74 VSS, 75 VDD, 76 PA14, 77 PA15, 78 PC10, 79 PC11, 80 PC12, 81 PD0, 82 PD1, 83 PD2, 84 PD3, 85 PD4, 86 PD5, 87 PD6, 88 PD7, 89 PB3, 90 PB4, 91 PB5, 92 PB6, 93 PB7, 94 BOOT0, 95 PB8, 96 PB9, 97 PE0, 98 PE1, 99 VSS, 100 VDD

## STM32L476J_E-G_Yx
designator U?  value STM32L476J_E-G_Yx  Reference: U
STMicroelectronics Arm Cortex-M4 MCU, 512-1024KB flash, 128KB RAM, 80 MHz, 1.71-3.6V, 57 GPIO, WLCSP72; ki_keywords: Arm Cortex-M4 STM32L4 STM32L4x6; ki_fp_filters: ST*WLCSP*Die415*; Footprint: Package_CSP:ST_WLCSP-72_Die415; Datasheet: https://www.st.com/resource/en/datasheet/stm32l476je.pdf; Description_: STMicroelectronics Arm Cortex-M4 MCU, 512-1024KB flash, 128KB RAM, 80 MHz, 1.71-3.6V, 57 GPIO, WLCSP72
pins: A1 VDDUSB, A2 PA15, A3 PD2, A4 PG9, A5 PG14, A6 PB3, A7 PB7, A8 VSS, A9 VDD, B1 VSS, B2 PA14, B3 PC12, B4 PG10, B5 PG13, B6 VDDIO2, B7 PB6, B8 PC13, B9 VBAT, C1 PA12, C2 PA13, C3 PC11, C4 PG11, C5 PG12, C6 PB4, C7 PB5, C8 PC15, C9 PC14, D1 PA11, D2 PA10, D3 PC10, D7 BOOT0, D8 PH1, D9 PH0, E1 PC9, E2 PA8, E3 PA9, E7 PB8, E8 PB9, E9 NRST, F1 PC7, F2 PC8, F3 PC6, F7 PC2, F8 PC1, F9 PC0, G1 PB15, G2 PB14, G3 PB11, G4 PA1, G5 PA4, G6 PA2, G7 PC3, G8 VREF+, G9 VSSA, H1 PB12, H2 PB13, H3 PB10, H4 PA7, H5 PA6, H6 PA5, H7 PA3, H8 PA0, H9 VDDA, J1 VDD, J2 VSS, J3 PB2, J4 PB1, J5 PB0, J6 PC5, J7 PC4, J8 VDD, J9 VSS

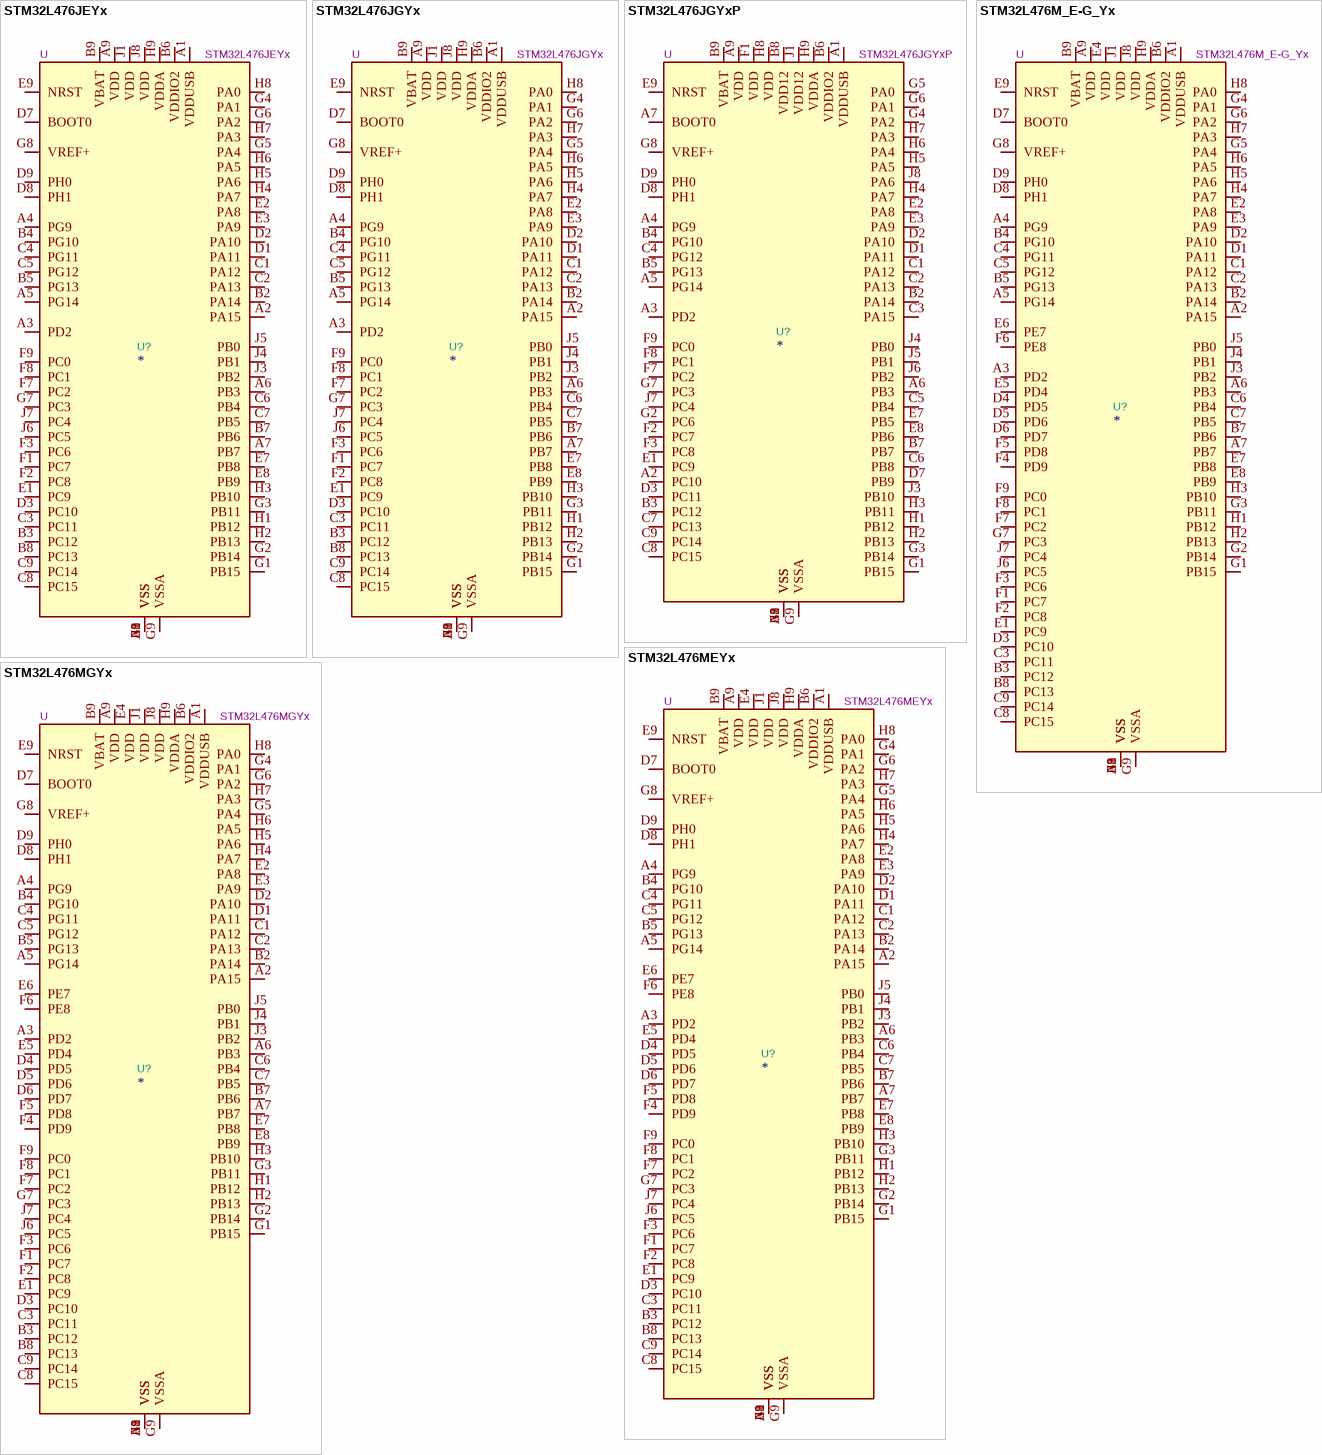
[diagram p51: symbols STM32L476JEYx to STM32L476MGYx]

## STM32L476JEYx
designator U?  value STM32L476JEYx  Reference: U
STMicroelectronics Arm Cortex-M4 MCU, 512KB flash, 128KB RAM, 80 MHz, 1.71-3.6V, 57 GPIO, WLCSP72; ki_keywords: Arm Cortex-M4 STM32L4 STM32L4x6; ki_fp_filters: ST*WLCSP*Die415*; Footprint: Package_CSP:ST_WLCSP-72_Die415; Datasheet: https://www.st.com/resource/en/datasheet/stm32l476je.pdf; Description_: STMicroelectronics Arm Cortex-M4 MCU, 512KB flash, 128KB RAM, 80 MHz, 1.71-3.6V, 57 GPIO, WLCSP72
pins: A1 VDDUSB, A2 PA15, A3 PD2, A4 PG9, A5 PG14, A6 PB3, A7 PB7, A8 VSS, A9 VDD, B1 VSS, B2 PA14, B3 PC12, B4 PG10, B5 PG13, B6 VDDIO2, B7 PB6, B8 PC13, B9 VBAT, C1 PA12, C2 PA13, C3 PC11, C4 PG11, C5 PG12, C6 PB4, C7 PB5, C8 PC15, C9 PC14, D1 PA11, D2 PA10, D3 PC10, D7 BOOT0, D8 PH1, D9 PH0, E1 PC9, E2 PA8, E3 PA9, E7 PB8, E8 PB9, E9 NRST, F1 PC7, F2 PC8, F3 PC6, F7 PC2, F8 PC1, F9 PC0, G1 PB15, G2 PB14, G3 PB11, G4 PA1, G5 PA4, G6 PA2, G7 PC3, G8 VREF+, G9 VSSA, H1 PB12, H2 PB13, H3 PB10, H4 PA7, H5 PA6, H6 PA5, H7 PA3, H8 PA0, H9 VDDA, J1 VDD, J2 VSS, J3 PB2, J4 PB1, J5 PB0, J6 PC5, J7 PC4, J8 VDD, J9 VSS

## STM32L476JGYx
designator U?  value STM32L476JGYx  Reference: U
STMicroelectronics Arm Cortex-M4 MCU, 1024KB flash, 128KB RAM, 80 MHz, 1.71-3.6V, 57 GPIO, WLCSP72; ki_keywords: Arm Cortex-M4 STM32L4 STM32L4x6; ki_fp_filters: ST*WLCSP*Die415*; Footprint: Package_CSP:ST_WLCSP-72_Die415; Datasheet: https://www.st.com/resource/en/datasheet/stm32l476jg.pdf; Description_: STMicroelectronics Arm Cortex-M4 MCU, 1024KB flash, 128KB RAM, 80 MHz, 1.71-3.6V, 57 GPIO, WLCSP72
pins: A1 VDDUSB, A2 PA15, A3 PD2, A4 PG9, A5 PG14, A6 PB3, A7 PB7, A8 VSS, A9 VDD, B1 VSS, B2 PA14, B3 PC12, B4 PG10, B5 PG13, B6 VDDIO2, B7 PB6, B8 PC13, B9 VBAT, C1 PA12, C2 PA13, C3 PC11, C4 PG11, C5 PG12, C6 PB4, C7 PB5, C8 PC15, C9 PC14, D1 PA11, D2 PA10, D3 PC10, D7 BOOT0, D8 PH1, D9 PH0, E1 PC9, E2 PA8, E3 PA9, E7 PB8, E8 PB9, E9 NRST, F1 PC7, F2 PC8, F3 PC6, F7 PC2, F8 PC1, F9 PC0, G1 PB15, G2 PB14, G3 PB11, G4 PA1, G5 PA4, G6 PA2, G7 PC3, G8 VREF+, G9 VSSA, H1 PB12, H2 PB13, H3 PB10, H4 PA7, H5 PA6, H6 PA5, H7 PA3, H8 PA0, H9 VDDA, J1 VDD, J2 VSS, J3 PB2, J4 PB1, J5 PB0, J6 PC5, J7 PC4, J8 VDD, J9 VSS

## STM32L476JGYxP
designator U?  value STM32L476JGYxP  Reference: U
STMicroelectronics Arm Cortex-M4 MCU, 1024KB flash, 128KB RAM, 80 MHz, 1.71-3.6V, 55 GPIO, WLCSP72; ki_keywords: Arm Cortex-M4 STM32L4 STM32L4x6; ki_fp_filters: ST*WLCSP*Die415*; Footprint: Package_CSP:ST_WLCSP-72_Die415; Datasheet: https://www.st.com/resource/en/datasheet/stm32l476jg.pdf; Description_: STMicroelectronics Arm Cortex-M4 MCU, 1024KB flash, 128KB RAM, 80 MHz, 1.71-3.6V, 55 GPIO, WLCSP72
pins: A1 VDDUSB, A2 PC10, A3 PD2, A4 PG9, A5 PG14, A6 PB3, A7 BOOT0, A8 VSS, A9 VDD, B1 VSS, B2 PA14, B3 PC12, B4 PG10, B5 PG13, B6 VDDIO2, B7 PB7, B8 VDD12, B9 VBAT, C1 PA12, C2 PA13, C3 PA15, C4 PG12, C5 PB4, C6 PB8, C7 PC13, C8 PC15, C9 PC14, D1 PA11, D2 PA10, D3 PC11, D7 PB9, D8 PH1, D9 PH0, E1 PC9, E2 PA8, E3 PA9, E7 PB5, E8 PB6, E9 NRST, F1 VDD, F2 PC7, F3 PC8, F7 PC2, F8 PC1, F9 PC0, G1 PB15, G2 PC6, G3 PB14, G4 PA2, G5 PA0, G6 PA1, G7 PC3, G8 VREF+, G9 VSSA, H1 PB12, H2 PB13, H3 PB11, H4 PA7, H5 PA5, H6 PA4, H7 PA3, H8 VDD, H9 VDDA, J1 VDD12, J2 VSS, J3 PB10, J4 PB0, J5 PB1, J6 PB2, J7 PC4, J8 PA6, J9 VSS

## STM32L476M_E-G_Yx
designator U?  value STM32L476M_E-G_Yx  Reference: U
STMicroelectronics Arm Cortex-M4 MCU, 512-1024KB flash, 128KB RAM, 80 MHz, 1.71-3.6V, 65 GPIO, WLCSP81; ki_keywords: Arm Cortex-M4 STM32L4 STM32L4x6; ki_fp_filters: ST*WLCSP*Die415*; Footprint: Package_CSP:ST_WLCSP-81_Die415; Datasheet: https://www.st.com/resource/en/datasheet/stm32l476me.pdf; Description_: STMicroelectronics Arm Cortex-M4 MCU, 512-1024KB flash, 128KB RAM, 80 MHz, 1.71-3.6V, 65 GPIO, WLCSP81
pins: A1 VDDUSB, A2 PA15, A3 PD2, A4 PG9, A5 PG14, A6 PB3, A7 PB7, A8 VSS, A9 VDD, B1 VSS, B2 PA14, B3 PC12, B4 PG10, B5 PG13, B6 VDDIO2, B7 PB6, B8 PC13, B9 VBAT, C1 PA12, C2 PA13, C3 PC11, C4 PG11, C5 PG12, C6 PB4, C7 PB5, C8 PC15, C9 PC14, D1 PA11, D2 PA10, D3 PC10, D4 PD5, D5 PD6, D6 PD7, D7 BOOT0, D8 PH1, D9 PH0, E1 PC9, E2 PA8, E3 PA9, E4 VDD, E5 PD4, E6 PE7, E7 PB8, E8 PB9, E9 NRST, F1 PC7, F2 PC8, F3 PC6, F4 PD9, F5 PD8, F6 PE8, F7 PC2, F8 PC1, F9 PC0, G1 PB15, G2 PB14, G3 PB11, G4 PA1, G5 PA4, G6 PA2, G7 PC3, G8 VREF+, G9 VSSA, H1 PB12, H2 PB13, H3 PB10, H4 PA7, H5 PA6, H6 PA5, H7 PA3, H8 PA0, H9 VDDA, J1 VDD, J2 VSS, J3 PB2, J4 PB1, J5 PB0, J6 PC5, J7 PC4, J8 VDD, J9 VSS